# Altium schematic symbol library Vowstar_MCU.SchLib: 30 symbols
Pins are listed as number, name and electrical type; pins without a type are passive.

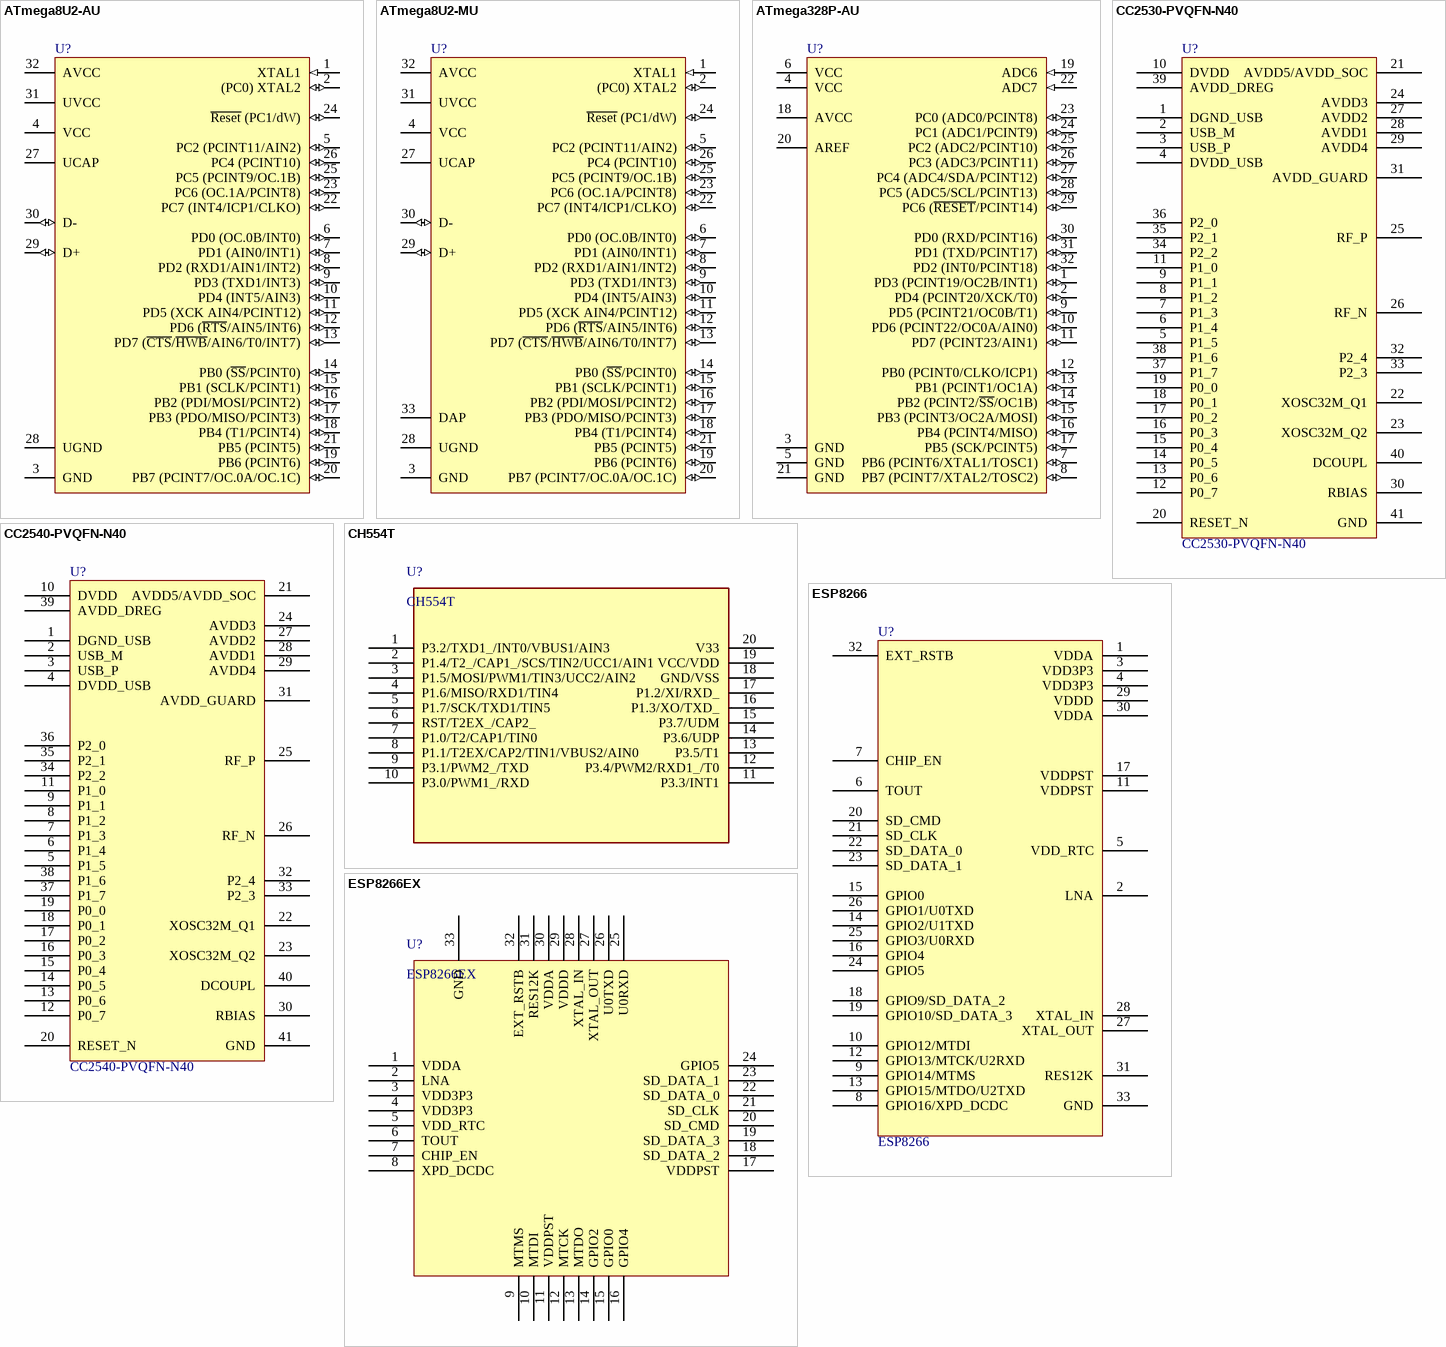
[diagram p0: symbols ATmega8U2-AU to ESP8266EX]

## ATmega8U2-AU
designator U?
8-bit AVR Microcontroller, 2.7-5.5V, 8KB Flash, 512 Bytes EEPROM, 512 Bytes SRAM, 32-pin TQFP, Industrial Grade (-40 Centigrade to 85 Centigrade); Published: 1-Apr-2010; DatasheetVersion: revC, Dec-2009; PackageVersion: revB, Oct-2001; PackageReference: 32A; Publisher: Altium Limited; PackageDescription: 32-Lead, 7x7x1.0 mm Body, 0.8mm Lead Pitch, Thin Profile Plastic Quad Flat Package (TQFP); Supplier 1: Digi-Key; Supplier Part Number 1: ATMEGA8U2-AU-ND; Supplier 2: Farnell; Supplier Part Number 2: 1748535; Supplier 3: Mouser; Supplier Part Number 3: 556-ATMEGA8U2-AU; Code_JEDEC: MS-026-ABA; ComponentLink1Description: Manufacturer Link; ComponentLink1URL: http://www.atmel.com/products/avr/default.asp?; ComponentLink2Description: ATmega8U2/16U2/32U2 Datasheet; ComponentLink2URL: http://www.atmel.com/dyn/resources/prod_documents/doc7799.pdf; ComponentLink3Description: ATmega8U2/16U2/32U2 Summary; ComponentLink3URL: http://www.atmel.com/dyn/resources/prod_documents/7799S.pdf; ComponentLink4Description: Atmel.com Home; ComponentLink4URL: http://www.atmel.com
footprint LQFP32_L (Thin QFP, 32-Leads, Body 7x7mm, Pitch 0.8mm, IPC High Density)
footprint LQFP32_N (Thin QFP, 32-Leads, Body 7x7mm, Pitch 0.8mm, IPC Medium Density)
footprint LQFP32_M (Thin QFP, 32-Leads, Body 7x7mm, Pitch 0.8mm, IPC Low Density)
pins: 1 XTAL1 (in), 2 (PC0) XTAL2 (io), 3 GND (power), 4 VCC (power), 5 PC2 (PCINT11/AIN2) (io), 6 PD0 (OC.0B/INT0) (io), 7 PD1 (AIN0/INT1) (io), 8 PD2 (RXD1/AIN1/INT2) (io), 9 PD3 (TXD1/INT3) (io), 10 PD4 (INT5/AIN3) (io), 11 PD5 (XCK AIN4/PCINT12) (io), 12 PD6 (~{RTS}/AIN5/INT6) (io), 13 PD7 (~{CTS}/~{HWB}/AIN6/T0/INT7) (io), 14 PB0 (~{SS}/PCINT0) (io), 15 PB1 (SCLK/PCINT1) (io), 16 PB2 (PDI/MOSI/PCINT2) (io), 17 PB3 (PDO/MISO/PCINT3) (io), 18 PB4 (T1/PCINT4) (io), 19 PB6 (PCINT6) (io), 20 PB7 (PCINT7/OC.0A/OC.1C) (io), 21 PB5 (PCINT5) (io), 22 PC7 (INT4/ICP1/CLKO) (io), 23 PC6 (OC.1A/PCINT8) (io), 24 ~{Reset} (PC1/dW) (io), 25 PC5 (PCINT9/OC.1B) (io), 26 PC4 (PCINT10) (io), 27 UCAP (power), 28 UGND (power), 29 D+ (io), 30 D- (io), 31 UVCC (power), 32 AVCC (power)

## ATmega8U2-MU
designator U?
8-bit AVR Microcontroller, 2.7-5.5V, 8KB Flash, 512 Bytes EEPROM, 512 Bytes SRAM, 32-pin VQFN, Industrial Grade (-40 Centigrade to 85 Centigrade); Published: 1-Apr-2010; DatasheetVersion: revC, Dec-2009; PackageVersion: revA, Oct-2008; PackageReference: 32PG; Publisher: Altium Limited; PackageDescription: 32-Pin Quad Flat No-Lead (QFN) Sawn,  5 x 5 x 1.0 mm Body, Pitch 0.50 mm, 3.60mm Exposed Pad; Supplier 1: Digi-Key; Supplier Part Number 1: ATMEGA8U2-MU-ND; Supplier 2: Farnell; Supplier Part Number 2: 1748536; Supplier 3: Mouser; Supplier Part Number 3: 556-ATMEGA8U2-MU; Code_JEDEC: MO-220WHHD-2; ComponentLink1Description: Manufacturer Link; ComponentLink1URL: http://www.atmel.com/products/avr/default.asp?; ComponentLink2Description: ATmega8U2/16U2/32U2 Datasheet; ComponentLink2URL: http://www.atmel.com/dyn/resources/prod_documents/doc7799.pdf; ComponentLink3Description: ATmega8U2/16U2/32U2 Summary; ComponentLink3URL: http://www.atmel.com/dyn/resources/prod_documents/7799S.pdf; ComponentLink4Description: Atmel.com Home; ComponentLink4URL: http://www.atmel.com
footprint PVQFN32_L (QFN, 32-Leads, Body 5x5mm, Pitch 0.5mm, IPC High Density)
footprint PVQFN32_M (QFN, 32-Leads, Body 5x5mm, Pitch 0.5mm, IPC Low Density)
footprint PVQFN32_N (QFN, 32-Leads, Body 5x5mm, Pitch 0.5mm, IPC Medium Density)
pins: 1 XTAL1 (in), 2 (PC0) XTAL2 (io), 3 GND (power), 4 VCC (power), 5 PC2 (PCINT11/AIN2) (io), 6 PD0 (OC.0B/INT0) (io), 7 PD1 (AIN0/INT1) (io), 8 PD2 (RXD1/AIN1/INT2) (io), 9 PD3 (TXD1/INT3) (io), 10 PD4 (INT5/AIN3) (io), 11 PD5 (XCK AIN4/PCINT12) (io), 12 PD6 (~{RTS}/AIN5/INT6) (io), 13 PD7 (~{CTS}/~{HWB}/AIN6/T0/INT7) (io), 14 PB0 (~{SS}/PCINT0) (io), 15 PB1 (SCLK/PCINT1) (io), 16 PB2 (PDI/MOSI/PCINT2) (io), 17 PB3 (PDO/MISO/PCINT3) (io), 18 PB4 (T1/PCINT4) (io), 19 PB6 (PCINT6) (io), 20 PB7 (PCINT7/OC.0A/OC.1C) (io), 21 PB5 (PCINT5) (io), 22 PC7 (INT4/ICP1/CLKO) (io), 23 PC6 (OC.1A/PCINT8) (io), 24 ~{Reset} (PC1/dW) (io), 25 PC5 (PCINT9/OC.1B) (io), 26 PC4 (PCINT10) (io), 27 UCAP (power), 28 UGND (power), 29 D+ (io), 30 D- (io), 31 UVCC (power), 32 AVCC (power), 33 DAP (power)

## ATmega328P-AU
designator U?
8-bit AVR Microcontroller, 32KB Flash, 1KB EEPROM, 2KB SRAM, 32-pin TQFP, Industrial Grade (-40 Centigrade to 85 Centigrade); Published: 1-Apr-2010; DatasheetVersion: revA, Jan-2010; PackageVersion: revB, Oct-2001; PackageReference: 32A; Publisher: Altium Limited; PackageDescription: 32-Lead, 7x7x1.0 mm Body, 0.8mm Lead Pitch, Thin Profile Plastic Quad Flat Package (TQFP); Supplier 1: Digi-Key; Supplier Part Number 1: ATMEGA328P-AU-ND; Supplier 2: Farnell; Supplier Part Number 2: 1715486; Supplier 3: Mouser; Supplier Part Number 3: 556-ATMEGA328P-AU; Code_JEDEC: MS-026-ABA; ComponentLink1Description: Manufacturer Link; ComponentLink1URL: http://www.atmel.com/products/avr/default.asp?; ComponentLink2Description: ATmega48A/48PA/88A/88PA/168A/168PA/328/328P Datasheet; ComponentLink2URL: http://www.atmel.com/dyn/resources/prod_documents/8271.pdf; ComponentLink3Description: ATmega48A/48PA/88A/88PA/168A/168PA/328/328P Summary; ComponentLink3URL: http://www.atmel.com/dyn/resources/prod_documents/8271S.pdf; ComponentLink4Description: Atmel.com Home; ComponentLink4URL: http://www.atmel.com
footprint LQFP32_L (Thin QFP, 32-Leads, Body 7x7mm, Pitch 0.8mm, IPC High Density)
footprint LQFP32_M (Thin QFP, 32-Leads, Body 7x7mm, Pitch 0.8mm, IPC Low Density)
footprint LQFP32_N (Thin QFP, 32-Leads, Body 7x7mm, Pitch 0.8mm, IPC Medium Density)
pins: 1 PD3 (PCINT19/OC2B/INT1) (io), 2 PD4 (PCINT20/XCK/T0) (io), 3 GND (power), 4 VCC (power), 5 GND (power), 6 VCC (power), 7 PB6 (PCINT6/XTAL1/TOSC1) (io), 8 PB7 (PCINT7/XTAL2/TOSC2) (io), 9 PD5 (PCINT21/OC0B/T1) (io), 10 PD6 (PCINT22/OC0A/AIN0) (io), 11 PD7 (PCINT23/AIN1) (io), 12 PB0 (PCINT0/CLKO/ICP1) (io), 13 PB1 (PCINT1/OC1A) (io), 14 PB2 (PCINT2/~{SS}/OC1B) (io), 15 PB3 (PCINT3/OC2A/MOSI) (io), 16 PB4 (PCINT4/MISO) (io), 17 PB5 (SCK/PCINT5) (io), 18 AVCC (power), 19 ADC6 (in), 20 AREF, 21 GND (power), 22 ADC7 (in), 23 PC0 (ADC0/PCINT8) (io), 24 PC1 (ADC1/PCINT9) (io), 25 PC2 (ADC2/PCINT10) (io), 26 PC3 (ADC3/PCINT11) (io), 27 PC4 (ADC4/SDA/PCINT12) (io), 28 PC5 (ADC5/SCL/PCINT13) (io), 29 PC6 (~{RESET}/PCINT14) (io), 30 PD0 (RXD/PCINT16) (io), 31 PD1 (TXD/PCINT17) (io), 32 PD2 (INT0/PCINT18) (io)

## CC2530-PVQFN-N40
designator U?
footprint CC2530-PVQFN-N40 (CC2530)
pins: 1 DGND_USB, 2 USB_M, 3 USB_P, 4 DVDD_USB, 5 P1_5, 6 P1_4, 7 P1_3, 8 P1_2, 9 P1_1, 10 DVDD, 11 P1_0, 12 P0_7, 13 P0_6, 14 P0_5, 15 P0_4, 16 P0_3, 17 P0_2, 18 P0_1, 19 P0_0, 20 RESET_N, 21 AVDD5/AVDD_SOC, 22 XOSC32M_Q1, 23 XOSC32M_Q2, 24 AVDD3, 25 RF_P, 26 RF_N, 27 AVDD2, 28 AVDD1, 29 AVDD4, 30 RBIAS, 31 AVDD_GUARD, 32 P2_4, 33 P2_3, 34 P2_2, 35 P2_1, 36 P2_0, 37 P1_7, 38 P1_6, 39 AVDD_DREG, 40 DCOUPL, 41 GND

## CC2540-PVQFN-N40
designator U?
footprint CC2540-PVQFN-N40 (CC2540)
pins: 1 DGND_USB, 2 USB_M, 3 USB_P, 4 DVDD_USB, 5 P1_5, 6 P1_4, 7 P1_3, 8 P1_2, 9 P1_1, 10 DVDD, 11 P1_0, 12 P0_7, 13 P0_6, 14 P0_5, 15 P0_4, 16 P0_3, 17 P0_2, 18 P0_1, 19 P0_0, 20 RESET_N, 21 AVDD5/AVDD_SOC, 22 XOSC32M_Q1, 23 XOSC32M_Q2, 24 AVDD3, 25 RF_P, 26 RF_N, 27 AVDD2, 28 AVDD1, 29 AVDD4, 30 RBIAS, 31 AVDD_GUARD, 32 P2_4, 33 P2_3, 34 P2_2, 35 P2_1, 36 P2_0, 37 P1_7, 38 P1_6, 39 AVDD_DREG, 40 DCOUPL, 41 GND

## CH554T
designator U?
CH554T USB Microcontroller
footprint TSSOP20 (SSOP; 20 Leads; Body Width 3.9 mm; Pitch 0.64 mm)
pins: 1 P3.2/TXD1_/INT0/VBUS1/AIN3, 2 P1.4/T2_/CAP1_/SCS/TIN2/UCC1/AIN1, 3 P1.5/MOSI/PWM1/TIN3/UCC2/AIN2, 4 P1.6/MISO/RXD1/TIN4, 5 P1.7/SCK/TXD1/TIN5, 6 RST/T2EX_/CAP2_, 7 P1.0/T2/CAP1/TIN0, 8 P1.1/T2EX/CAP2/TIN1/VBUS2/AIN0, 9 P3.1/PWM2_/TXD, 10 P3.0/PWM1_/RXD, 11 P3.3/INT1, 12 P3.4/PWM2/RXD1_/T0, 13 P3.5/T1, 14 P3.6/UDP, 15 P3.7/UDM, 16 P1.3/XO/TXD_, 17 P1.2/XI/RXD_, 18 GND/VSS (power), 19 VCC/VDD (power), 20 V33 (power)

## ESP8266
designator U?
footprint QFN32 (32-Pin Quad Flat No-Lead 0.5 mm Pitch, IPC High Density)
pins: 1 VDDA (power), 2 LNA (hiz), 3 VDD3P3 (power), 4 VDD3P3 (power), 5 VDD_RTC (power), 6 TOUT (hiz), 7 CHIP_EN (hiz), 8 GPIO16/XPD_DCDC (hiz), 9 GPIO14/MTMS, 10 GPIO12/MTDI, 11 VDDPST (power), 12 GPIO13/MTCK/U2RXD, 13 GPIO15/MTDO/U2TXD, 14 GPIO2/U1TXD, 15 GPIO0, 16 GPIO4 (hiz), 17 VDDPST (power), 18 GPIO9/SD_DATA_2, 19 GPIO10/SD_DATA_3, 20 SD_CMD, 21 SD_CLK, 22 SD_DATA_0, 23 SD_DATA_1, 24 GPIO5 (hiz), 25 GPIO3/U0RXD, 26 GPIO1/U0TXD, 27 XTAL_OUT, 28 XTAL_IN, 29 VDDD (power), 30 VDDA (power), 31 RES12K, 32 EXT_RSTB, 33 GND (power)

## ESP8266EX
designator U?
ESP8266EX IOT SOC
footprint QFN32 (32-Pin Quad Flat No-Lead 0.5 mm Pitch, IPC High Density)
pins: 1 VDDA (power), 2 LNA (hiz), 3 VDD3P3 (power), 4 VDD3P3 (power), 5 VDD_RTC (power), 6 TOUT (hiz), 7 CHIP_EN (hiz), 8 XPD_DCDC (hiz), 9 MTMS, 10 MTDI, 11 VDDPST (power), 12 MTCK, 13 MTDO, 14 GPIO2, 15 GPIO0, 16 GPIO4 (hiz), 17 VDDPST (power), 18 SD_DATA_2, 19 SD_DATA_3, 20 SD_CMD, 21 SD_CLK, 22 SD_DATA_0, 23 SD_DATA_1, 24 GPIO5 (hiz), 25 U0RXD, 26 U0TXD, 27 XTAL_OUT, 28 XTAL_IN, 29 VDDD (power), 30 VDDA (power), 31 RES12K, 32 EXT_RSTB, 33 GND (power)

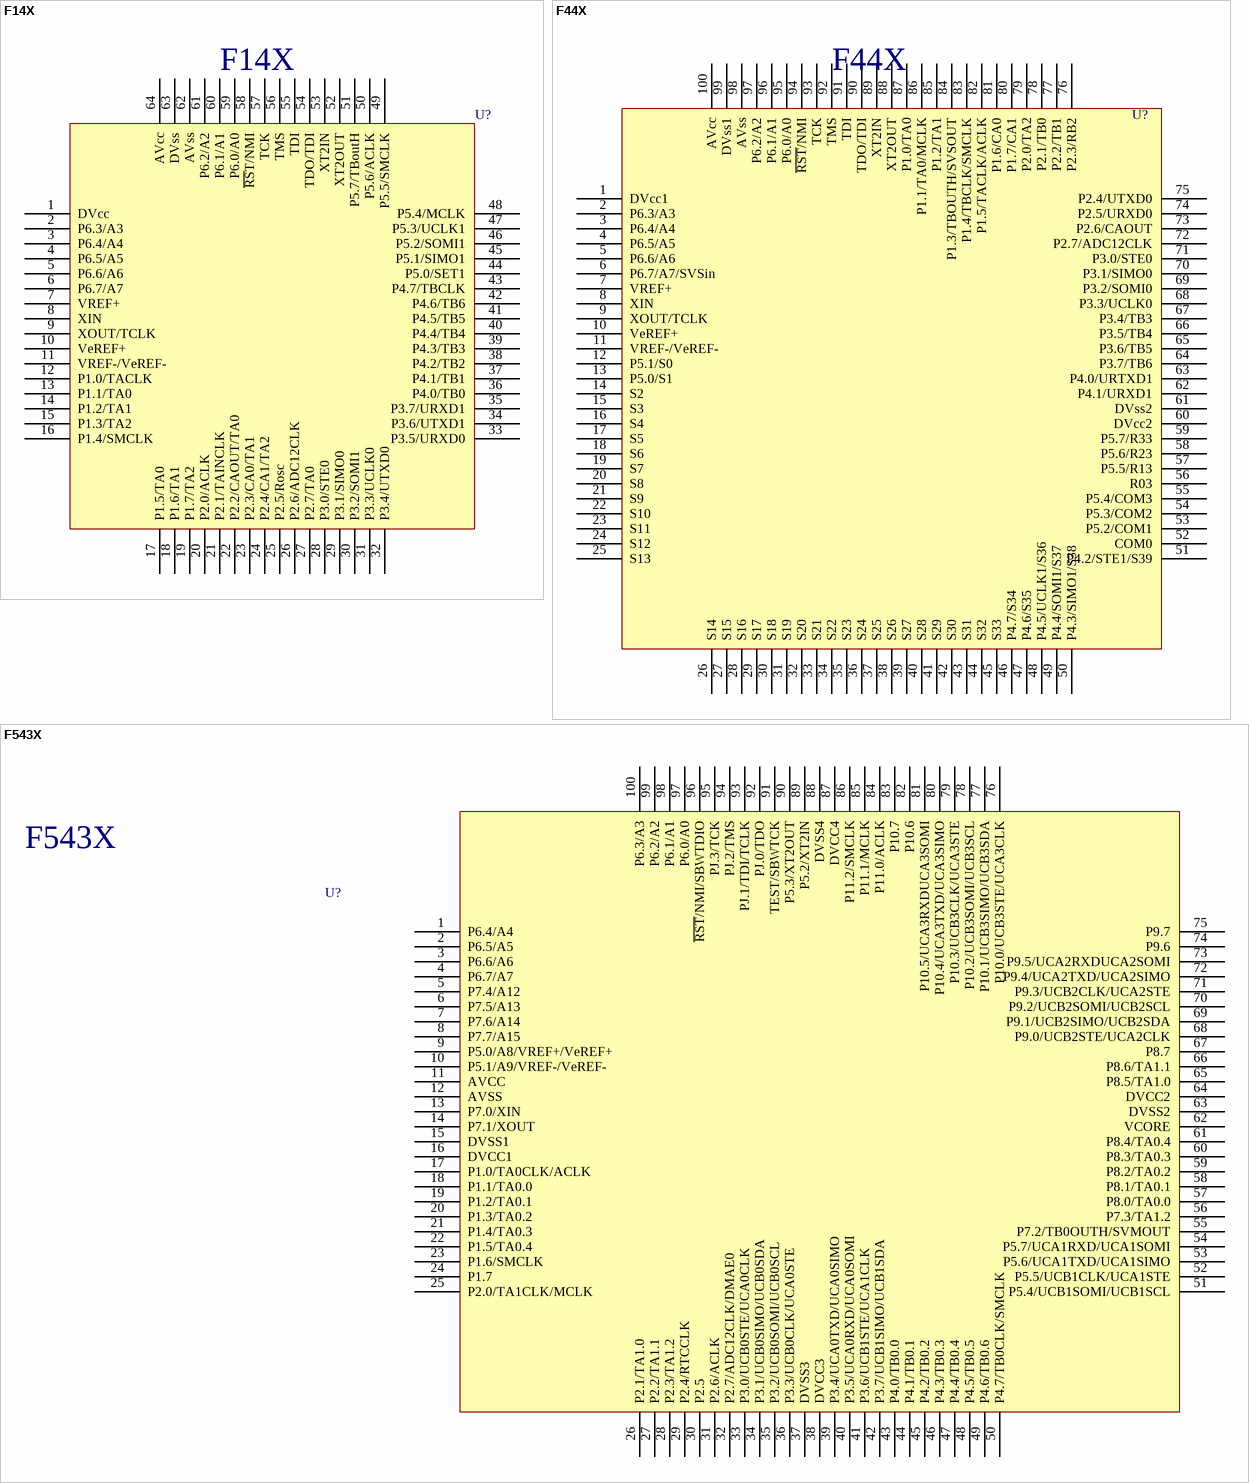
[diagram p1: symbols F14X to F543X]

## F14X
designator U?
footprint F14X
pins: 1 DVcc, 2 P6.3/A3, 3 P6.4/A4, 4 P6.5/A5, 5 P6.6/A6, 6 P6.7/A7, 7 VREF+, 8 XIN, 9 XOUT/TCLK, 10 VeREF+, 11 VREF-/VeREF-, 12 P1.0/TACLK, 13 P1.1/TA0, 14 P1.2/TA1, 15 P1.3/TA2, 16 P1.4/SMCLK, 17 P1.5/TA0, 18 P1.6/TA1, 19 P1.7/TA2, 20 P2.0/ACLK, 21 P2.1/TAINCLK, 22 P2.2/CAOUT/TA0, 23 P2.3/CA0/TA1, 24 P2.4/CA1/TA2, 25 P2.5/Rosc, 26 P2.6/ADC12CLK, 27 P2.7/TA0, 28 P3.0/STE0, 29 P3.1/SIMO0, 30 P3.2/SOMI1, 31 P3.3/UCLK0, 32 P3.4/UTXD0, 33 P3.5/URXD0, 34 P3.6/UTXD1, 35 P3.7/URXD1, 36 P4.0/TB0, 37 P4.1/TB1, 38 P4.2/TB2, 39 P4.3/TB3, 40 P4.4/TB4, 41 P4.5/TB5, 42 P4.6/TB6, 43 P4.7/TBCLK, 44 P5.0/SET1, 45 P5.1/SIMO1, 46 P5.2/SOMI1, 47 P5.3/UCLK1, 48 P5.4/MCLK, 49 P5.5/SMCLK, 50 P5.6/ACLK, 51 P5.7/TBoutH, 52 XT2OUT, 53 XT2IN, 54 TDO/TDI, 55 TDI, 56 TMS, 57 TCK, 58 ~{RS}T/NMI, 59 P6.0/A0, 60 P6.1/A1, 61 P6.2/A2, 62 AVss, 63 DVss, 64 AVcc

## F44X
designator U?
footprint F44X (msp430f449)
pins: 1 DVcc1, 2 P6.3/A3, 3 P6.4/A4, 4 P6.5/A5, 5 P6.6/A6, 6 P6.7/A7/SVSin, 7 VREF+, 8 XIN, 9 XOUT/TCLK, 10 VeREF+, 11 VREF-/VeREF-, 12 P5.1/S0, 13 P5.0/S1, 14 S2, 15 S3, 16 S4, 17 S5, 18 S6, 19 S7, 20 S8, 21 S9, 22 S10, 23 S11, 24 S12, 25 S13, 26 S14, 27 S15, 28 S16, 29 S17, 30 S18, 31 S19, 32 S20, 33 S21, 34 S22, 35 S23, 36 S24, 37 S25, 38 S26, 39 S27, 40 S28, 41 S29, 42 S30, 43 S31, 44 S32, 45 S33, 46 P4.7/S34, 47 P4.6/S35, 48 P4.5/UCLK1/S36, 49 P4.4/SOMI1/S37, 50 P4.3/SIMO1/S38, 51 P4.2/STE1/S39, 52 COM0, 53 P5.2/COM1, 54 P5.3/COM2, 55 P5.4/COM3, 56 R03, 57 P5.5/R13, 58 P5.6/R23, 59 P5.7/R33, 60 DVcc2, 61 DVss2, 62 P4.1/URXD1, 63 P4.0/URTXD1, 64 P3.7/TB6, 65 P3.6/TB5, 66 P3.5/TB4, 67 P3.4/TB3, 68 P3.3/UCLK0, 69 P3.2/SOMI0, 70 P3.1/SIMO0, 71 P3.0/STE0, 72 P2.7/ADC12CLK, 73 P2.6/CAOUT, 74 P2.5/URXD0, 75 P2.4/UTXD0, 76 P2.3/RB2, 77 P2.2/TB1, 78 P2.1/TB0, 79 P2.0/TA2, 80 P1.7/CA1, 81 P1.6/CA0, 82 P1.5/TACLK/ACLK, 83 P1.4/TBCLK/SMCLK, 84 P1.3/TBOUTH/SVSOUT, 85 P1.2/TA1, 86 P1.1/TA0/MCLK, 87 P1.0/TA0, 88 XT2OUT, 89 XT2IN, 90 TDO/TDI, 91 TDI, 92 TMS, 93 TCK, 94 ~{RST}/NMI, 95 P6.0/A0, 96 P6.1/A1, 97 P6.2/A2, 98 AVss, 99 DVss1, 100 AVcc

## F543X
designator U?
footprint F543X (msp430f5438)
pins: 1 P6.4/A4, 2 P6.5/A5, 3 P6.6/A6, 4 P6.7/A7, 5 P7.4/A12, 6 P7.5/A13, 7 P7.6/A14, 8 P7.7/A15, 9 P5.0/A8/VREF+/VeREF+, 10 P5.1/A9/VREF-/VeREF-, 11 AVCC, 12 AVSS, 13 P7.0/XIN, 14 P7.1/XOUT, 15 DVSS1, 16 DVCC1, 17 P1.0/TA0CLK/ACLK, 18 P1.1/TA0.0, 19 P1.2/TA0.1, 20 P1.3/TA0.2, 21 P1.4/TA0.3, 22 P1.5/TA0.4, 23 P1.6/SMCLK, 24 P1.7, 25 P2.0/TA1CLK/MCLK, 26 P2.1/TA1.0, 27 P2.2/TA1.1, 28 P2.3/TA1.2, 29 P2.4/RTCCLK, 30 P2.5, 31 P2.6/ACLK, 32 P2.7/ADC12CLK/DMAE0, 33 P3.0/UCB0STE/UCA0CLK, 34 P3.1/UCB0SIMO/UCB0SDA, 35 P3.2/UCB0SOMI/UCB0SCL, 36 P3.3/UCB0CLK/UCA0STE, 37 DVSS3, 38 DVCC3, 39 P3.4/UCA0TXD/UCA0SIMO, 40 P3.5/UCA0RXD/UCA0SOMI, 41 P3.6/UCB1STE/UCA1CLK, 42 P3.7/UCB1SIMO/UCB1SDA, 43 P4.0/TB0.0, 44 P4.1/TB0.1, 45 P4.2/TB0.2, 46 P4.3/TB0.3, 47 P4.4/TB0.4, 48 P4.5/TB0.5, 49 P4.6/TB0.6, 50 P4.7/TB0CLK/SMCLK, 51 P5.4/UCB1SOMI/UCB1SCL, 52 P5.5/UCB1CLK/UCA1STE, 53 P5.6/UCA1TXD/UCA1SIMO, 54 P5.7/UCA1RXD/UCA1SOMI, 55 P7.2/TB0OUTH/SVMOUT, 56 P7.3/TA1.2, 57 P8.0/TA0.0, 58 P8.1/TA0.1, 59 P8.2/TA0.2, 60 P8.3/TA0.3, 61 P8.4/TA0.4, 62 VCORE, 63 DVSS2, 64 DVCC2, 65 P8.5/TA1.0, 66 P8.6/TA1.1, 67 P8.7, 68 P9.0/UCB2STE/UCA2CLK, 69 P9.1/UCB2SIMO/UCB2SDA, 70 P9.2/UCB2SOMI/UCB2SCL, 71 P9.3/UCB2CLK/UCA2STE, 72 P9.4/UCA2TXD/UCA2SIMO, 73 P9.5/UCA2RXDUCA2SOMI, 74 P9.6, 75 P9.7, 76 P10.0/UCB3STE/UCA3CLK, 77 P10.1/UCB3SIMO/UCB3SDA, 78 P10.2/UCB3SOMI/UCB3SCL, 79 P10.3/UCB3CLK/UCA3STE, 80 P10.4/UCA3TXD/UCA3SIMO, 81 P10.5/UCA3RXDUCA3SOMI, 82 P10.6, 83 P10.7, 84 P11.0/ACLK, 85 P11.1/MCLK, 86 P11.2/SMCLK, 87 DVCC4, 88 DVSS4, 89 P5.2/XT2IN, 90 P5.3/XT2OUT, 91 TEST/SBWTCK, 92 PJ.0/TDO, 93 PJ.1/TDI/TCLK, 94 PJ.2/TMS, 95 PJ.3/TCK, 96 ~{RST}/NMI/SBWTDIO, 97 P6.0/A0, 98 P6.1/A1, 99 P6.2/A2, 100 P6.3/A3

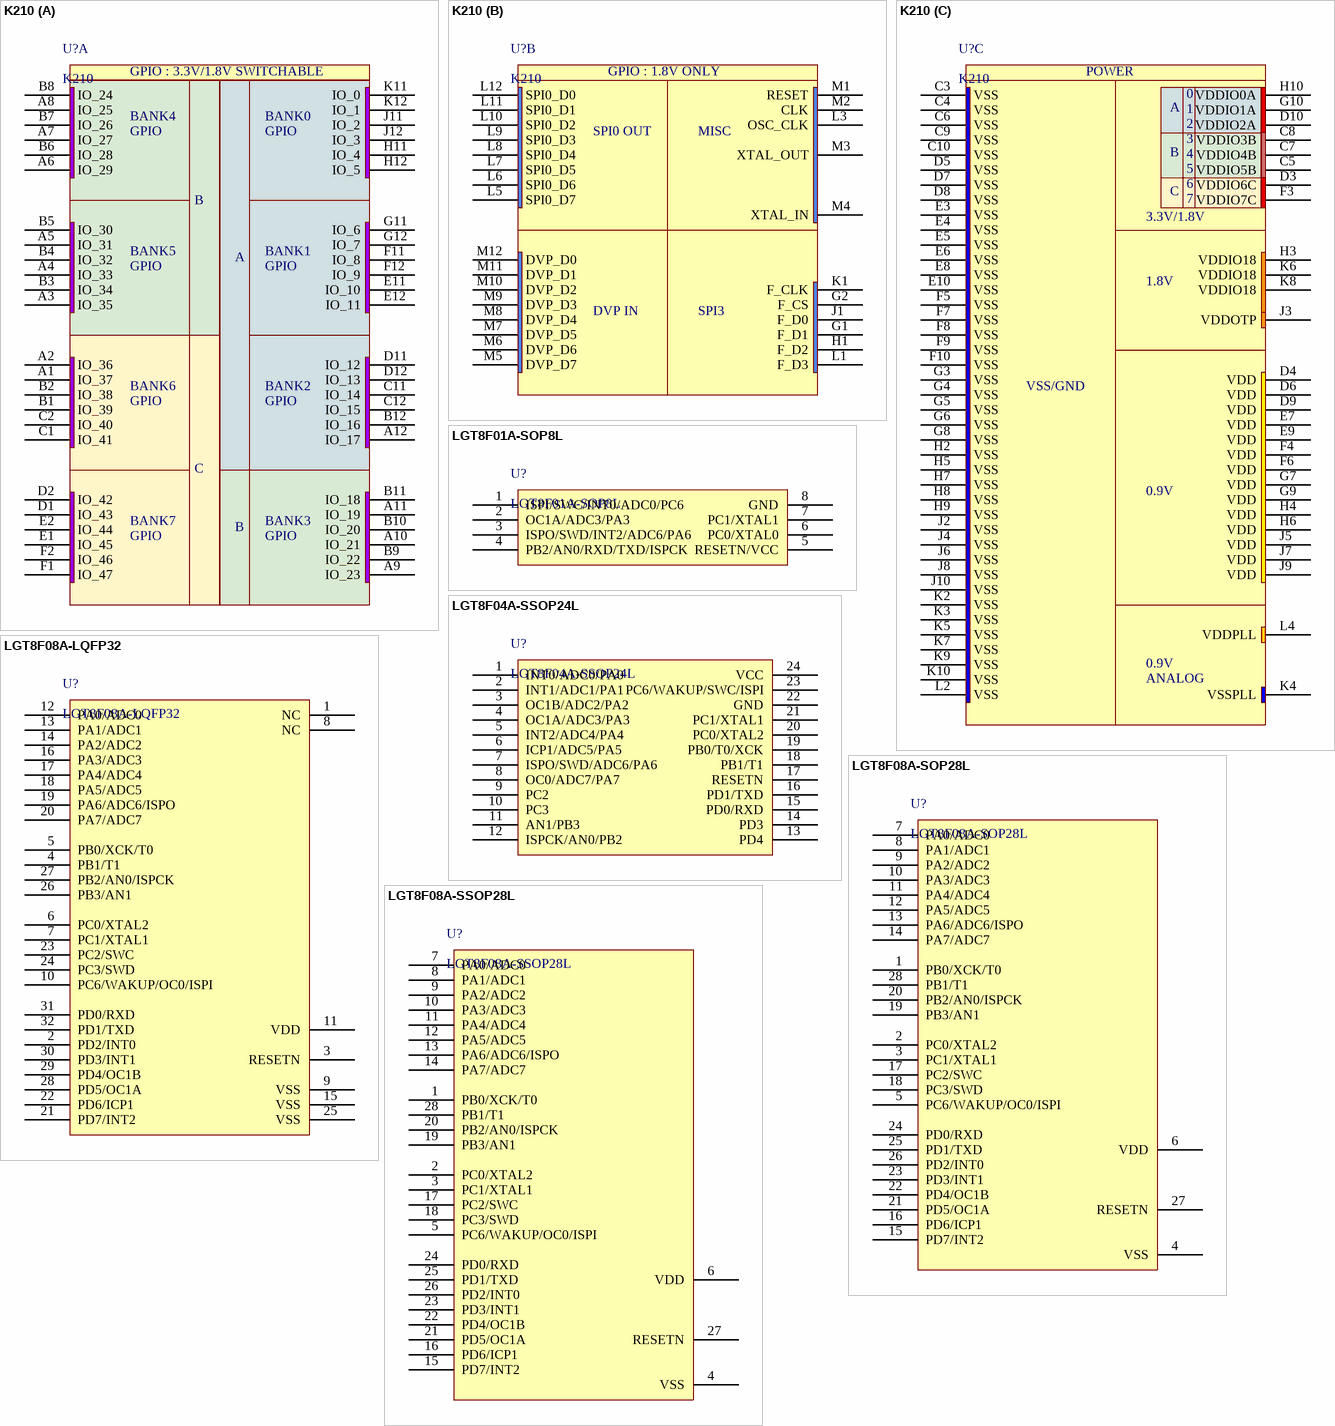
[diagram p2: symbols K210 to LGT8F08A-SSOP28L]

## K210
designator U?
Canaan Kendryte K210 AI SoC; VENDOR: CANAAN INC.
footprint BGA144C65P12X12_800X800X95 (BGA, 144-Leads, Body 8.00x8.00mmx0.95mm, Pitch 0.65mm)
part A pins: A1 IO_37 "Voltage switchable GPIO for FPIOA (3.3V or 1.8V). After reset is :  GPIOHS21.", A2 IO_36 "Voltage switchable GPIO for FPIOA (3.3V or 1.8V). After reset is :  GPIOHS20.", A3 IO_35 "Voltage switchable GPIO for FPIOA (3.3V or 1.8V). After reset is :  GPIOHS19.", A4 IO_33 "Voltage switchable GPIO for FPIOA (3.3V or 1.8V). After reset is :  GPIOHS17.", A5 IO_31 "Voltage switchable GPIO for FPIOA (3.3V or 1.8V). After reset is :  GPIOHS15.", A6 IO_29 "Voltage switchable GPIO for FPIOA (3.3V or 1.8V). After reset is :  GPIOHS13.", A7 IO_27 "Voltage switchable GPIO for FPIOA (3.3V or 1.8V). After reset is :  GPIOHS11.", A8 IO_25 "Voltage switchable GPIO for FPIOA (3.3V or 1.8V). After reset is :  GPIOHS9.", A9 IO_23 "Voltage switchable GPIO for FPIOA (3.3V or 1.8V). After reset is :  GPIOHS7.", A10 IO_21 "Voltage switchable GPIO for FPIOA (3.3V or 1.8V). After reset is :  GPIOHS5.", A11 IO_19 "Voltage switchable GPIO for FPIOA (3.3V or 1.8V). After reset is :  GPIOHS3.", A12 IO_17 "Voltage switchable GPIO for FPIOA (3.3V or 1.8V). After reset is :  GPIOHS1.", B1 IO_39 "Voltage switchable GPIO for FPIOA (3.3V or 1.8V). After reset is :  GPIOHS23.", B2 IO_38 "Voltage switchable GPIO for FPIOA (3.3V or 1.8V). After reset is :  GPIOHS22.", B3 IO_34 "Voltage switchable GPIO for FPIOA (3.3V or 1.8V). After reset is :  GPIOHS18.", B4 IO_32 "Voltage switchable GPIO for FPIOA (3.3V or 1.8V). After reset is :  GPIOHS16.", B5 IO_30 "Voltage switchable GPIO for FPIOA (3.3V or 1.8V). After reset is :  GPIOHS14.", B6 IO_28 "Voltage switchable GPIO for FPIOA (3.3V or 1.8V). After reset is :  GPIOHS12.", B7 IO_26 "Voltage switchable GPIO for FPIOA (3.3V or 1.8V). After reset is :  GPIOHS10.", B8 IO_24 "Voltage switchable GPIO for FPIOA (3.3V or 1.8V). After reset is :  GPIOHS8.", B9 IO_22 "Voltage switchable GPIO for FPIOA (3.3V or 1.8V). After reset is :  GPIOHS6.", B10 IO_20 "Voltage switchable GPIO for FPIOA (3.3V or 1.8V). After reset is :  GPIOHS4.", B11 IO_18 "Voltage switchable GPIO for FPIOA (3.3V or 1.8V). After reset is :  GPIOHS2.", B12 IO_16 "Voltage switchable GPIO for FPIOA (3.3V or 1.8V). After reset is :  GPIOHS0.", C1 IO_41 "Voltage switchable GPIO for FPIOA (3.3V or 1.8V). After reset is :  GPIOHS25.", C2 IO_40 "Voltage switchable GPIO for FPIOA (3.3V or 1.8V). After reset is :  GPIOHS24.", C11 IO_14 "Voltage switchable GPIO for FPIOA (3.3V or 1.8V). After reset is :  GPIO6.", C12 IO_15 "Voltage switchable GPIO for FPIOA (3.3V or 1.8V). After reset is :  GPIO7.", D1 IO_43 "Voltage switchable GPIO for FPIOA (3.3V or 1.8V). After reset is :  GPIOHS27.", D2 IO_42 "Voltage switchable GPIO for FPIOA (3.3V or 1.8V). After reset is :  GPIOHS26.", D11 IO_12 "Voltage switchable GPIO for FPIOA (3.3V or 1.8V). After reset is :  GPIO4.", D12 IO_13 "Voltage switchable GPIO for FPIOA (3.3V or 1.8V). After reset is :  GPIO5.", E1 IO_45 "Voltage switchable GPIO for FPIOA (3.3V or 1.8V). After reset is :  GPIOHS29.", E2 IO_44 "Voltage switchable GPIO for FPIOA (3.3V or 1.8V). After reset is :  GPIOHS28.", E11 IO_10 "Voltage switchable GPIO for FPIOA (3.3V or 1.8V). After reset is :  GPIO2.", E12 IO_11 "Voltage switchable GPIO for FPIOA (3.3V or 1.8V). After reset is :  GPIO3.", F1 IO_47 "Voltage switchable GPIO for FPIOA (3.3V or 1.8V). After reset is :  GPIOHS31.", F2 IO_46 "Voltage switchable GPIO for FPIOA (3.3V or 1.8V). After reset is :  GPIOHS30.", F11 IO_8 "Voltage switchable GPIO for FPIOA (3.3V or 1.8V). After reset is :  GPIO0.", F12 IO_9 "Voltage switchable GPIO for FPIOA (3.3V or 1.8V). After reset is :  GPIO1.", G11 IO_6 "Voltage switchable GPIO for FPIOA (3.3V or 1.8V). After reset is :  (FLOAT*).", G12 IO_7 "Voltage switchable GPIO for FPIOA (3.3V or 1.8V). After reset is :  (FLOAT*).", H11 IO_4 "Voltage switchable GPIO for FPIOA (3.3V or 1.8V). After reset is :  UARTHS_RX.", H12 IO_5 "Voltage switchable GPIO for FPIOA (3.3V or 1.8V). After reset is :  UARTHS_TX.", J11 IO_2 "Voltage switchable GPIO for FPIOA (3.3V or 1.8V). After reset is :  JTAG_TMS.", J12 IO_3 "Voltage switchable GPIO for FPIOA (3.3V or 1.8V). After reset is :  JTAG_TDO.", K11 IO_0 "Voltage switchable GPIO for FPIOA (3.3V or 1.8V). After reset is :  JTAG_TCLK.", K12 IO_1 "Voltage switchable GPIO for FPIOA (3.3V or 1.8V). After reset is :  JTAG_TDI."
part B pins: G1 F_D1 "Fixed 1.8V GPIO for SPI. After reset is :  F_D1.", G2 F_CS "Fixed 1.8V GPIO for SPI. After reset is :  F_CS.", H1 F_D2 "Fixed 1.8V GPIO for SPI. After reset is :  F_D2.", J1 F_D0 "Fixed 1.8V GPIO for SPI. After reset is :  F_D0.", K1 F_CLK "Fixed 1.8V GPIO for SPI. After reset is :  F_CLK.", L1 F_D3 "Fixed 1.8V GPIO for SPI. After reset is :  F_D3.", L3 OSC_CLK "Clock output for oscillator, based on external crystal. After reset is :  OSC_CLK.", L5 SPI0_D7 "Output only GPIO for SPI0 D7. After reset is :  (FLOAT*).", L6 SPI0_D6 "Output only GPIO for SPI0 D6. After reset is :  (FLOAT*).", L7 SPI0_D5 "Output only GPIO for SPI0 D5. After reset is :  (FLOAT*).", L8 SPI0_D4 "Output only GPIO for SPI0 D4. After reset is :  (FLOAT*).", L9 SPI0_D3 "Output only GPIO for SPI0 D3. After reset is :  (FLOAT*).", L10 SPI0_D2 "Output only GPIO for SPI0 D2. After reset is :  (FLOAT*).", L11 SPI0_D1 "Output only GPIO for SPI0 D1. After reset is :  (FLOAT*).", L12 SPI0_D0 "Output only GPIO for SPI0 D0. After reset is :  (FLOAT*).", M1 RESET "System Reset (LOW reset). After reset is :  RESET.", M2 CLK "System clock input. After reset is :  CLK.", M3 XTAL_OUT "External crystal output, non fail-safe, can't connect active signal during power failure. After reset is :  XTAL_OUT.", M4 XTAL_IN "External crystal input, non fail-safe, can't connect active signal during power failure. After reset is :  XTAL_IN.", M5 DVP_D7 "Input only GPIO for DVP D7. After reset is :  (FLOAT*).", M6 DVP_D6 "Input only GPIO for DVP D6. After reset is :  (FLOAT*).", M7 DVP_D5 "Input only GPIO for DVP D5. After reset is :  (FLOAT*).", M8 DVP_D4 "Input only GPIO for DVP D4. After reset is :  (FLOAT*).", M9 DVP_D3 "Input only GPIO for DVP D3. After reset is :  (FLOAT*).", M10 DVP_D2 "Input only GPIO for DVP D2. After reset is :  (FLOAT*).", M11 DVP_D1 "Input only GPIO for DVP D1. After reset is :  (FLOAT*).", M12 DVP_D0 "Input only GPIO for DVP D0. After reset is :  (FLOAT*)."
part C pins: C3 VSS (power) "Ground. After reset is :  VSS.", C4 VSS (power) "Ground. After reset is :  VSS.", C5 VDDIO5B (power) "3.3V Power supply for voltage switchable GPIO. After reset is :  VDDIO33.", C6 VSS (power) "Ground. After reset is :  VSS.", C7 VDDIO4B (power) "3.3V Power supply for voltage switchable GPIO. After reset is :  VDDIO33.", C8 VDDIO3B (power) "3.3V Power supply for voltage switchable GPIO. After reset is :  VDDIO33.", C9 VSS (power) "Ground. After reset is :  VSS.", C10 VSS (power) "Ground. After reset is :  VSS.", D3 VDDIO6C (power) "3.3V Power supply for voltage switchable GPIO. After reset is :  VDDIO33.", D4 VDD (power) "0.9V Power supply for digital core. After reset is :  VDD.", D5 VSS (power) "Ground. After reset is :  VSS.", D6 VDD (power) "0.9V Power supply for digital core. After reset is :  VDD.", D7 VSS (power) "Ground. After reset is :  VSS.", D8 VSS (power) "Ground. After reset is :  VSS.", D9 VDD (power) "0.9V Power supply for digital core. After reset is :  VDD.", D10 VDDIO2A (power) "3.3V Power supply for voltage switchable GPIO. After reset is :  VDDIO33.", E3 VSS (power) "Ground. After reset is :  VSS.", E4 VSS (power) "Ground. After reset is :  VSS.", E5 VSS (power) "Ground. After reset is :  VSS.", E6 VSS (power) "Ground. After reset is :  VSS.", E7 VDD (power) "0.9V Power supply for digital core. After reset is :  VDD.", E8 VSS (power) "Ground. After reset is :  VSS.", E9 VDD (power) "0.9V Power supply for digital core. After reset is :  VDD.", E10 VSS (power) "Ground. After reset is :  VSS.", F3 VDDIO7C (power) "3.3V Power supply for voltage switchable GPIO. After reset is :  VDDIO33.", F4 VDD (power) "0.9V Power supply for digital core. After reset is :  VDD.", F5 VSS (power) "Ground. After reset is :  VSS.", F6 VDD (power) "0.9V Power supply for digital core. After reset is :  VDD.", F7 VSS (power) "Ground. After reset is :  VSS.", F8 VSS (power) "Ground. After reset is :  VSS.", F9 VSS (power) "Ground. After reset is :  VSS.", F10 VSS (power) "Ground. After reset is :  VSS.", G3 VSS (power) "Ground. After reset is :  VSS.", G4 VSS (power) "Ground. After reset is :  VSS.", G5 VSS (power) "Ground. After reset is :  VSS.", G6 VSS (power) "Ground. After reset is :  VSS.", G7 VDD (power) "0.9V Power supply for digital core. After reset is :  VDD.", G8 VSS (power) "Ground. After reset is :  VSS.", G9 VDD (power) "0.9V Power supply for digital core. After reset is :  VDD.", G10 VDDIO1A (power) "3.3V Power supply for voltage switchable GPIO. After reset is :  VDDIO33.", H2 VSS (power) "Ground. After reset is :  VSS.", H3 VDDIO18 (power) "1.8V Power supply for GPIO. After reset is :  VDDIO18.", H4 VDD (power) "0.9V Power supply for digital core. After reset is :  VDD.", H5 VSS (power) "Ground. After reset is :  VSS.", H6 VDD (power) "0.9V Power supply for digital core. After reset is :  VDD.", H7 VSS (power) "Ground. After reset is :  VSS.", H8 VSS (power) "Ground. After reset is :  VSS.", H9 VSS (power) "Ground. After reset is :  VSS.", H10 VDDIO0A (power) "3.3V Power supply for voltage switchable GPIO. After reset is :  VDDIO33.", J2 VSS (power) "Ground. After reset is :  VSS.", J3 VDDOTP (power) "1.8V Power supply for OTP. After reset is :  VDDOTP.", J4 VSS (power) "Ground. After reset is :  VSS.", J5 VDD (power) "0.9V Power supply for digital core. After reset is :  VDD.", J6 VSS (power) "Ground. After reset is :  VSS.", J7 VDD (power) "0.9V Power supply for digital core. After reset is :  VDD.", J8 VSS (power) "Ground. After reset is :  VSS.", J9 VDD (power) "0.9V Power supply for digital core. After reset is :  VDD.", J10 VSS (power) "Ground. After reset is :  VSS.", K2 VSS (power) "Ground. After reset is :  VSS.", K3 VSS (power) "Ground. After reset is :  VSS.", K4 VSSPLL (power) "Analog Ground. for PLL. After reset is :  VSSPLL.", K5 VSS (power) "Ground. After reset is :  VSS.", K6 VDDIO18 (power) "1.8V Power supply for GPIO. After reset is :  VDDIO18.", K7 VSS (power) "Ground. After reset is :  VSS.", K8 VDDIO18 (power) "1.8V Power supply for GPIO. After reset is :  VDDIO18.", K9 VSS (power) "Ground. After reset is :  VSS.", K10 VSS (power) "Ground. After reset is :  VSS.", L2 VSS (power) "Ground. After reset is :  VSS.", L4 VDDPLL (power) "0.9V Analog Power supply for PLL. After reset is :  VDDPLL."
part A text: GPIO : 3.3V/1.8V SWITCHABLE; BANK4; BANK0; GPIO; B; BANK5; BANK1; A; BANK6; BANK2; C; BANK7; BANK3
part B text: GPIO : 1.8V ONLY; SPI0 OUT; MISC; DVP IN; SPI3
part C text: POWER; 0; A; 1; 2; 3; B; 4; 5; 6; C; 7; 3.3V/1.8V; 1.8V; VSS/GND; 0.9V; ANALOG

## LGT8F01A-SOP8L
designator U?
footprint LGT8F01A-SOP8L
pins: 1 ISPI/SWC/INT0/ADC0/PC6, 2 OC1A/ADC3/PA3, 3 ISPO/SWD/INT2/ADC6/PA6, 4 PB2/AN0/RXD/TXD/ISPCK, 5 RESETN/VCC, 6 PC0/XTAL0, 7 PC1/XTAL1, 8 GND

## LGT8F04A-SSOP24L
designator U?
footprint LGT8F04A-SSOP24 (SSOP, Plastic; 24 Leads; Body Width 5.3 mm; Pitch 0.65 mm)
pins: 1 INT0/ADC0/PA0, 2 INT1/ADC1/PA1, 3 OC1B/ADC2/PA2, 4 OC1A/ADC3/PA3, 5 INT2/ADC4/PA4, 6 ICP1/ADC5/PA5, 7 ISPO/SWD/ADC6/PA6, 8 OC0/ADC7/PA7, 9 PC2, 10 PC3, 11 AN1/PB3, 12 ISPCK/AN0/PB2, 13 PD4, 14 PD3, 15 PD0/RXD, 16 PD1/TXD, 17 RESETN, 18 PB1/T1, 19 PB0/T0/XCK, 20 PC0/XTAL2, 21 PC1/XTAL1, 22 GND, 23 PC6/WAKUP/SWC/ISPI, 24 VCC

## LGT8F08A-LQFP32
designator U?
Publisher: www.ourdev.cn; PackageReference: LQFP32; PackageDescription: 28-Lead Plastic Small Outline (SO) - Wide 7.50mm Body [SOIC]; ComponentLink1Description: Datasheet; ComponentLink1URL: http://www.mcugreen.com/LGT8F0XA/docs/LGT8F0XA%20Series%20Programming%20Manual%20v1.2.pdf; ComponentLink2Description: Packaging Specification; ComponentLink3Description: LogicGreen Home; ComponentLink3URL: http://www.mcugreen.com/; DatasheetVersion: v1.2; LatestRevisionDate: 2012/04/18; Supplier 1: www.mailshop.cn; Supplier Part Number 1: LGT8F08A-SOP28L; Supplier Part Number 3: 10647
footprint LGT8F08A-LQFP32 (32-Pin Thin Quad Flat Pack 0.8 mm Pitch, IPC Medium Density)
pins: 1 NC, 2 PD2/INT0, 3 RESETN, 4 PB1/T1, 5 PB0/XCK/T0, 6 PC0/XTAL2, 7 PC1/XTAL1, 8 NC, 9 VSS, 10 PC6/WAKUP/OC0/ISPI, 11 VDD, 12 PA0/ADC0, 13 PA1/ADC1, 14 PA2/ADC2, 15 VSS, 16 PA3/ADC3, 17 PA4/ADC4, 18 PA5/ADC5, 19 PA6/ADC6/ISPO, 20 PA7/ADC7, 21 PD7/INT2, 22 PD6/ICP1, 23 PC2/SWC, 24 PC3/SWD, 25 VSS, 26 PB3/AN1, 27 PB2/AN0/ISPCK, 28 PD5/OC1A, 29 PD4/OC1B, 30 PD3/INT1, 31 PD0/RXD, 32 PD1/TXD
1 alternate drawing of the same symbol

## LGT8F08A-SOP28L
designator U?
Publisher: www.ourdev.cn; PackageReference: SOP28L; PackageDescription: 28-Lead Plastic Small Outline (SO) - Wide 7.50mm Body [SOIC]; ComponentLink1Description: Datasheet; ComponentLink1URL: http://www.mcugreen.com/LGT8F0XA/docs/LGT8F0XA%20Series%20Programming%20Manual%20v1.2.pdf; ComponentLink2Description: Packaging Specification; ComponentLink3Description: LogicGreen Home; ComponentLink3URL: http://www.mcugreen.com/; DatasheetVersion: v1.2; LatestRevisionDate: 2012/04/18; Supplier 1: www.mailshop.cn; Supplier Part Number 1: LGT8F08A-SOP28L; Supplier Part Number 3: 10647
footprint LGT8F08A-SOP28L (SOP, 28-Leads, Body 17.6x7.7mm (max), Pitch 1.27mm, IPC Low Density)
pins: 1 PB0/XCK/T0, 2 PC0/XTAL2, 3 PC1/XTAL1, 4 VSS, 5 PC6/WAKUP/OC0/ISPI, 6 VDD, 7 PA0/ADC0, 8 PA1/ADC1, 9 PA2/ADC2, 10 PA3/ADC3, 11 PA4/ADC4, 12 PA5/ADC5, 13 PA6/ADC6/ISPO, 14 PA7/ADC7, 15 PD7/INT2, 16 PD6/ICP1, 17 PC2/SWC, 18 PC3/SWD, 19 PB3/AN1, 20 PB2/AN0/ISPCK, 21 PD5/OC1A, 22 PD4/OC1B, 23 PD3/INT1, 24 PD0/RXD, 25 PD1/TXD, 26 PD2/INT0, 27 RESETN, 28 PB1/T1
1 alternate drawing of the same symbol

## LGT8F08A-SSOP28L
designator U?
Publisher: www.ourdev.cn; PackageReference: SSOP28; PackageDescription: 28-Lead Plastic Small Outline (SO) - Wide 7.50mm Body [SOIC]; ComponentLink1Description: Datasheet; ComponentLink1URL: http://www.mcugreen.com/LGT8F0XA/docs/LGT8F0XA%20Series%20Programming%20Manual%20v1.2.pdf; ComponentLink2Description: Packaging Specification; ComponentLink3Description: LogicGreen Home; ComponentLink3URL: http://www.mcugreen.com/; DatasheetVersion: v1.2; LatestRevisionDate: 2012/04/18; Supplier 1: www.mailshop.cn; Supplier Part Number 1: LGT8F08A-SOP28L; Supplier Part Number 3: 10647
footprint LGT8F08A-SSOP28 (SSOP, Plastic; 28 Leads; Body Width 5.3 mm; Pitch 0.65 mm)
pins: 1 PB0/XCK/T0, 2 PC0/XTAL2, 3 PC1/XTAL1, 4 VSS, 5 PC6/WAKUP/OC0/ISPI, 6 VDD, 7 PA0/ADC0, 8 PA1/ADC1, 9 PA2/ADC2, 10 PA3/ADC3, 11 PA4/ADC4, 12 PA5/ADC5, 13 PA6/ADC6/ISPO, 14 PA7/ADC7, 15 PD7/INT2, 16 PD6/ICP1, 17 PC2/SWC, 18 PC3/SWD, 19 PB3/AN1, 20 PB2/AN0/ISPCK, 21 PD5/OC1A, 22 PD4/OC1B, 23 PD3/INT1, 24 PD0/RXD, 25 PD1/TXD, 26 PD2/INT0, 27 RESETN, 28 PB1/T1
1 alternate drawing of the same symbol

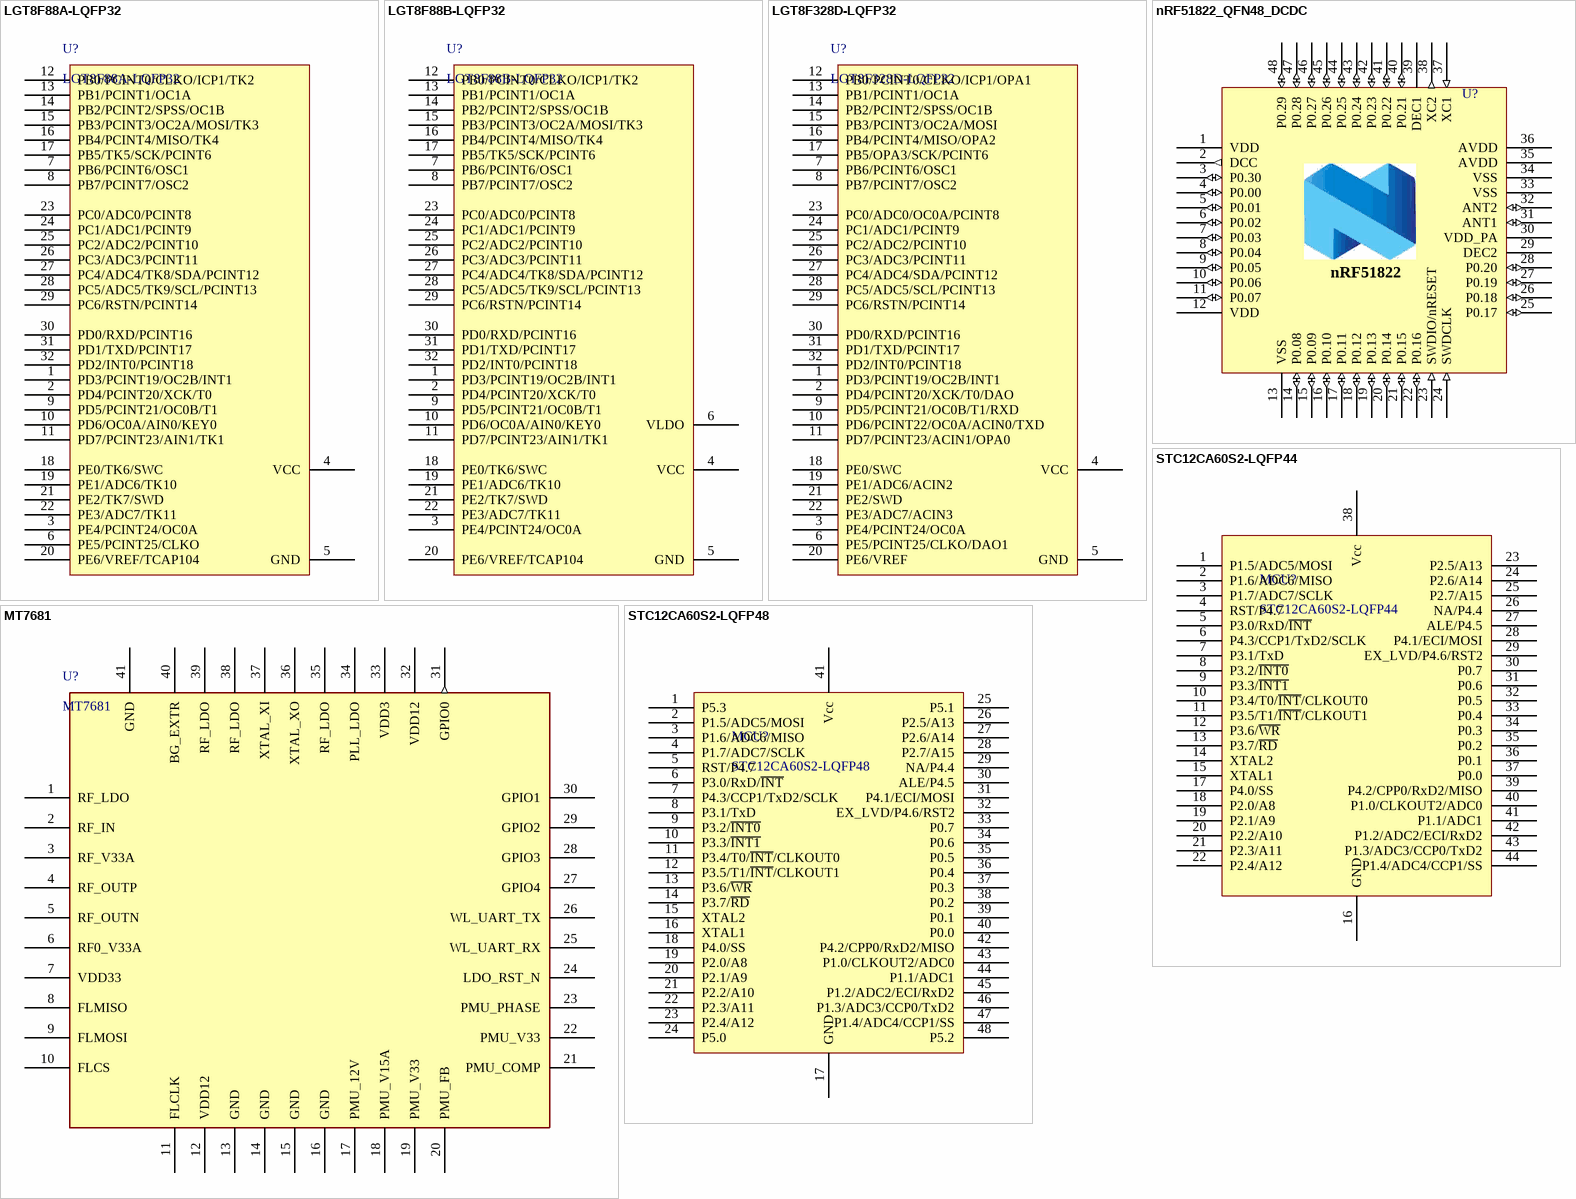
[diagram p3: symbols LGT8F88A-LQFP32 to STC12CA60S2-LQFP48]

## LGT8F88A-LQFP32
designator U?
Publisher: www.ourdev.cn; PackageReference: LQFP32; PackageDescription: 28-Lead Plastic Small Outline (SO) - Wide 7.50mm Body [SOIC]; ComponentLink1Description: Datasheet; ComponentLink1URL: http://www.mcugreen.com/LGT8F0XA/docs/LGT8F0XA%20Series%20Programming%20Manual%20v1.2.pdf; ComponentLink2Description: Packaging Specification; ComponentLink3Description: LogicGreen Home; ComponentLink3URL: http://www.mcugreen.com/; DatasheetVersion: v1.1.1; LatestRevisionDate: 2013/06/27; Supplier 1: www.mailshop.cn; Supplier Part Number 1: LGT8F88A-LQFP32
footprint LGT8F88A-LQFP32 (32-Pin Thin Quad Flat Pack 0.8 mm Pitch, IPC Medium Density)
pins: 1 PD3/PCINT19/OC2B/INT1, 2 PD4/PCINT20/XCK/T0, 3 PE4/PCINT24/OC0A, 4 VCC, 5 GND, 6 PE5/PCINT25/CLKO, 7 PB6/PCINT6/OSC1, 8 PB7/PCINT7/OSC2, 9 PD5/PCINT21/OC0B/T1, 10 PD6/OC0A/AIN0/KEY0, 11 PD7/PCINT23/AIN1/TK1, 12 PB0/PCINT0/CLKO/ICP1/TK2, 13 PB1/PCINT1/OC1A, 14 PB2/PCINT2/SPSS/OC1B, 15 PB3/PCINT3/OC2A/MOSI/TK3, 16 PB4/PCINT4/MISO/TK4, 17 PB5/TK5/SCK/PCINT6, 18 PE0/TK6/SWC, 19 PE1/ADC6/TK10, 20 PE6/VREF/TCAP104, 21 PE2/TK7/SWD, 22 PE3/ADC7/TK11, 23 PC0/ADC0/PCINT8, 24 PC1/ADC1/PCINT9, 25 PC2/ADC2/PCINT10, 26 PC3/ADC3/PCINT11, 27 PC4/ADC4/TK8/SDA/PCINT12, 28 PC5/ADC5/TK9/SCL/PCINT13, 29 PC6/RSTN/PCINT14, 30 PD0/RXD/PCINT16, 31 PD1/TXD/PCINT17, 32 PD2/INT0/PCINT18
1 alternate drawing of the same symbol

## LGT8F88B-LQFP32
designator U?
Publisher: www.ourdev.cn; PackageReference: LQFP32; PackageDescription: 28-Lead Plastic Small Outline (SO) - Wide 7.50mm Body [SOIC]; ComponentLink1Description: Datasheet; ComponentLink1URL: http://www.mcugreen.com/LGT8F0XA/docs/LGT8F0XA%20Series%20Programming%20Manual%20v1.2.pdf; ComponentLink2Description: Packaging Specification; ComponentLink3Description: LogicGreen Home; ComponentLink3URL: http://www.mcugreen.com/; DatasheetVersion: v1.1.1; LatestRevisionDate: 2013/06/27; Supplier 1: www.mailshop.cn; Supplier Part Number 1: LGT8F88B-LQFP32
footprint LGT8F88A-LQFP32 (32-Pin Thin Quad Flat Pack 0.8 mm Pitch, IPC Medium Density)
pins: 1 PD3/PCINT19/OC2B/INT1, 2 PD4/PCINT20/XCK/T0, 3 PE4/PCINT24/OC0A, 4 VCC, 5 GND, 6 VLDO, 7 PB6/PCINT6/OSC1, 8 PB7/PCINT7/OSC2, 9 PD5/PCINT21/OC0B/T1, 10 PD6/OC0A/AIN0/KEY0, 11 PD7/PCINT23/AIN1/TK1, 12 PB0/PCINT0/CLKO/ICP1/TK2, 13 PB1/PCINT1/OC1A, 14 PB2/PCINT2/SPSS/OC1B, 15 PB3/PCINT3/OC2A/MOSI/TK3, 16 PB4/PCINT4/MISO/TK4, 17 PB5/TK5/SCK/PCINT6, 18 PE0/TK6/SWC, 19 PE1/ADC6/TK10, 20 PE6/VREF/TCAP104, 21 PE2/TK7/SWD, 22 PE3/ADC7/TK11, 23 PC0/ADC0/PCINT8, 24 PC1/ADC1/PCINT9, 25 PC2/ADC2/PCINT10, 26 PC3/ADC3/PCINT11, 27 PC4/ADC4/TK8/SDA/PCINT12, 28 PC5/ADC5/TK9/SCL/PCINT13, 29 PC6/RSTN/PCINT14, 30 PD0/RXD/PCINT16, 31 PD1/TXD/PCINT17, 32 PD2/INT0/PCINT18
1 alternate drawing of the same symbol

## LGT8F328D-LQFP32
designator U?
Publisher: www.ourdev.cn; PackageReference: LQFP32; PackageDescription: 28-Lead Plastic Small Outline (SO) - Wide 7.50mm Body [SOIC]; ComponentLink1Description: Datasheet; ComponentLink1URL: http://www.mcugreen.com/LGT8F0XA/docs/LGT8F0XA%20Series%20Programming%20Manual%20v1.2.pdf; ComponentLink2Description: Packaging Specification; ComponentLink3Description: LogicGreen Home; ComponentLink3URL: http://www.mcugreen.com/; DatasheetVersion: v1.1.1; LatestRevisionDate: 2013/06/27; Supplier 1: www.mailshop.cn; Supplier Part Number 1: LGT8F328D-LQFP32
footprint LQFP32_L (Thin QFP, 32-Leads, Body 7x7mm, Pitch 0.8mm, IPC High Density)
footprint LQFP32_M (Thin QFP, 32-Leads, Body 7x7mm, Pitch 0.8mm, IPC Low Density)
footprint LQFP32_N (Thin QFP, 32-Leads, Body 7x7mm, Pitch 0.8mm, IPC Medium Density)
pins: 1 PD3/PCINT19/OC2B/INT1, 2 PD4/PCINT20/XCK/T0/DAO, 3 PE4/PCINT24/OC0A, 4 VCC, 5 GND, 6 PE5/PCINT25/CLKO/DAO1, 7 PB6/PCINT6/OSC1, 8 PB7/PCINT7/OSC2, 9 PD5/PCINT21/OC0B/T1/RXD, 10 PD6/PCINT22/OC0A/ACIN0/TXD, 11 PD7/PCINT23/ACIN1/OPA0, 12 PB0/PCINT0/CLKO/ICP1/OPA1, 13 PB1/PCINT1/OC1A, 14 PB2/PCINT2/SPSS/OC1B, 15 PB3/PCINT3/OC2A/MOSI, 16 PB4/PCINT4/MISO/OPA2, 17 PB5/OPA3/SCK/PCINT6, 18 PE0/SWC, 19 PE1/ADC6/ACIN2, 20 PE6/VREF, 21 PE2/SWD, 22 PE3/ADC7/ACIN3, 23 PC0/ADC0/OC0A/PCINT8, 24 PC1/ADC1/PCINT9, 25 PC2/ADC2/PCINT10, 26 PC3/ADC3/PCINT11, 27 PC4/ADC4/SDA/PCINT12, 28 PC5/ADC5/SCL/PCINT13, 29 PC6/RSTN/PCINT14, 30 PD0/RXD/PCINT16, 31 PD1/TXD/PCINT17, 32 PD2/INT0/PCINT18
1 alternate drawing of the same symbol

## MT7681
designator U?
MTK MT7681 IOT SOC
footprint MQFN40 (MQFN, 40-Leads, Body 5x5mm, Pitch 0.4mm, IPC Medium Density)
pins: 1 RF_LDO, 2 RF_IN, 3 RF_V33A, 4 RF_OUTP, 5 RF_OUTN, 6 RF0_V33A, 7 VDD33, 8 FLMISO, 9 FLMOSI, 10 FLCS, 11 FLCLK, 12 VDD12, 13 GND, 14 GND, 15 GND, 16 GND, 17 PMU_12V, 18 PMU_V15A, 19 PMU_V33, 20 PMU_FB, 21 PMU_COMP, 22 PMU_V33, 23 PMU_PHASE, 24 LDO_RST_N, 25 WL_UART_RX, 26 WL_UART_TX, 27 GPIO4, 28 GPIO3, 29 GPIO2, 30 GPIO1, 31 GPIO0 (out), 32 VDD12, 33 VDD3, 34 PLL_LDO, 35 RF_LDO, 36 XTAL_XO, 37 XTAL_XI, 38 RF_LDO, 39 RF_LDO, 40 BG_EXTR, 41 GND

## nRF51822_QFN48_DCDC
designator U?, comment nRF51822-QFAA  (value not drawn)
Multi-protocol Bluetooth Low Energy and 2.4GHz proprietary system-on-chip; Part Number: nRF51822-Q48-6x6_DCDC; Manufacturer: Nordic Semiconductor; Note: nRF51822 - QFN48 6x6 0.4mm pitch; Artikkelnr Noca: 15079200; Manufacturer Part Number: nRF51822-QFAA; Datasheet: *; Footprint: QFN-48; LatestRevisionDate: 2012-07-10; Pin Count: 48; Publisher: Nordic Semiconductor; Published: 2012-07-08; Value: nRF51822-QFAA; Supplier: Nordic Semiconductor; Supplier part number: *; 2nd source Supplier: *; 2nd source part number: *
footprint QFN40P600X600X90-48N
pins: 1 VDD (power), 2 DCC (out), 3 P0.30 (io), 4 P0.00 (io), 5 P0.01 (io), 6 P0.02 (io), 7 P0.03 (io), 8 P0.04 (io), 9 P0.05 (io), 10 P0.06 (io), 11 P0.07 (io), 12 VDD (power), 13 VSS (power), 14 P0.08 (io), 15 P0.09 (io), 16 P0.10 (io), 17 P0.11 (io), 18 P0.12 (io), 19 P0.13 (io), 20 P0.14 (io), 21 P0.15 (io), 22 P0.16 (io), 23 SWDIO/nRESET (in), 24 SWDCLK (in), 25 P0.17 (io), 26 P0.18 (io), 27 P0.19 (io), 28 P0.20 (io), 29 DEC2 (power), 30 VDD_PA (power), 31 ANT1 (io), 32 ANT2 (io), 33 VSS (power), 34 VSS (power), 35 AVDD (power), 36 AVDD (power), 37 XC1 (in), 38 XC2 (out), 39 DEC1 (power), 40 P0.21 (io), 41 P0.22 (io), 42 P0.23 (io), 43 P0.24 (io), 44 P0.25 (io), 45 P0.26 (io), 46 P0.27 (io), 47 P0.28 (io), 48 P0.29 (io), 49 (power) hidden to GND
text: nRF51822

## STC12CA60S2-LQFP44
designator MCU?
footprint STC12CA60S2-LQFP44
pins: 1 P1.5/ADC5/MOSI, 2 P1.6/ADC6/MISO, 3 P1.7/ADC7/SCLK, 4 RST/P4.7, 5 P3.0/RxD/~{INT}, 6 P4.3/CCP1/TxD2/SCLK, 7 P3.1/TxD, 8 P3.2/~{INT0}, 9 P3.3/~{INT1}, 10 P3.4/T0/~{INT}/CLKOUT0, 11 P3.5/T1/~{INT}/CLKOUT1, 12 P3.6/~{WR}, 13 P3.7/~{RD}, 14 XTAL2, 15 XTAL1, 16 GND, 17 P4.0/SS, 18 P2.0/A8, 19 P2.1/A9, 20 P2.2/A10, 21 P2.3/A11, 22 P2.4/A12, 23 P2.5/A13, 24 P2.6/A14, 25 P2.7/A15, 26 NA/P4.4, 27 ALE/P4.5, 28 P4.1/ECI/MOSI, 29 EX_LVD/P4.6/RST2, 30 P0.7, 31 P0.6, 32 P0.5, 33 P0.4, 34 P0.3, 35 P0.2, 36 P0.1, 37 P0.0, 38 Vcc, 39 P4.2/CPP0/RxD2/MISO, 40 P1.0/CLKOUT2/ADC0, 41 P1.1/ADC1, 42 P1.2/ADC2/ECI/RxD2, 43 P1.3/ADC3/CCP0/TxD2, 44 P1.4/ADC4/CCP1/SS

## STC12CA60S2-LQFP48
designator MCU?
footprint STC12CA60S2-LQFP48 (STC12CA60S2)
pins: 1 P5.3, 2 P1.5/ADC5/MOSI, 3 P1.6/ADC6/MISO, 4 P1.7/ADC7/SCLK, 5 RST/P4.7, 6 P3.0/RxD/~{INT}, 7 P4.3/CCP1/TxD2/SCLK, 8 P3.1/TxD, 9 P3.2/~{INT0}, 10 P3.3/~{INT1}, 11 P3.4/T0/~{INT}/CLKOUT0, 12 P3.5/T1/~{INT}/CLKOUT1, 13 P3.6/~{WR}, 14 P3.7/~{RD}, 15 XTAL2, 16 XTAL1, 17 GND, 18 P4.0/SS, 19 P2.0/A8, 20 P2.1/A9, 21 P2.2/A10, 22 P2.3/A11, 23 P2.4/A12, 24 P5.0, 25 P5.1, 26 P2.5/A13, 27 P2.6/A14, 28 P2.7/A15, 29 NA/P4.4, 30 ALE/P4.5, 31 P4.1/ECI/MOSI, 32 EX_LVD/P4.6/RST2, 33 P0.7, 34 P0.6, 35 P0.5, 36 P0.4, 37 P0.3, 38 P0.2, 39 P0.1, 40 P0.0, 41 Vcc, 42 P4.2/CPP0/RxD2/MISO, 43 P1.0/CLKOUT2/ADC0, 44 P1.1/ADC1, 45 P1.2/ADC2/ECI/RxD2, 46 P1.3/ADC3/CCP0/TxD2, 47 P1.4/ADC4/CCP1/SS, 48 P5.2

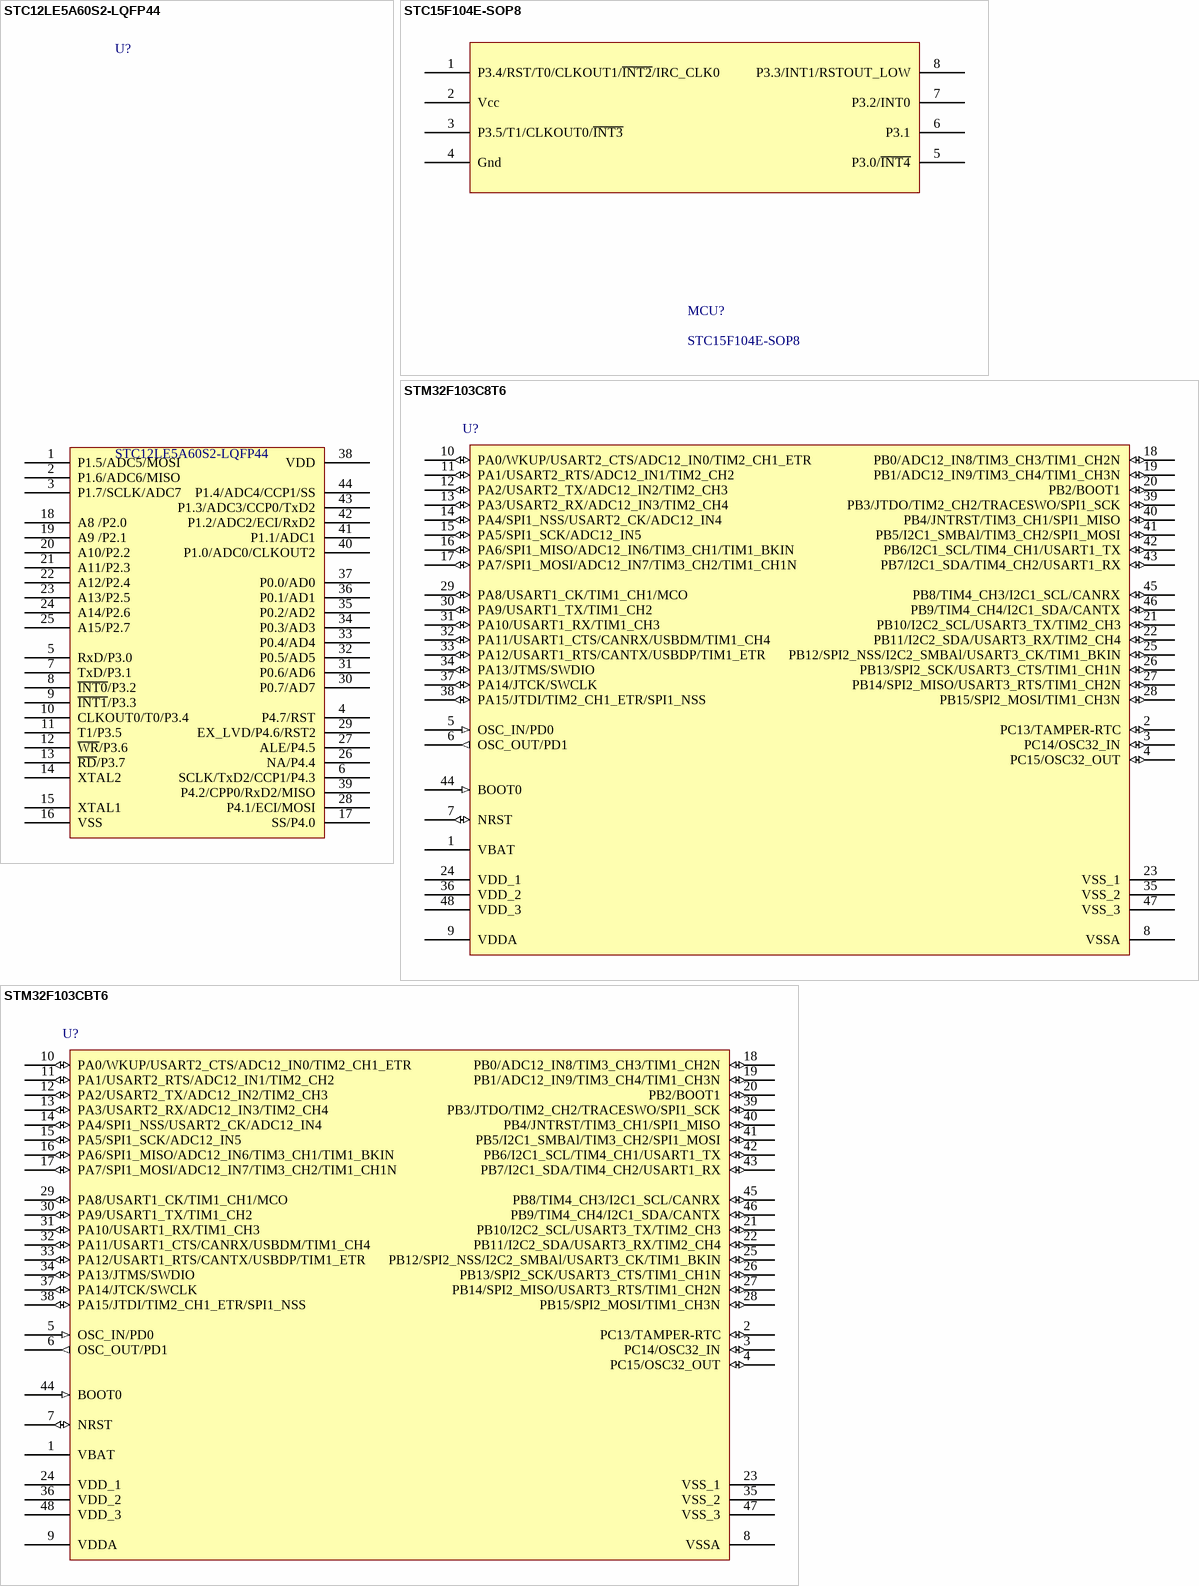
[diagram p4: symbols STC12LE5A60S2-LQFP44 to STM32F103CBT6]

## STC12LE5A60S2-LQFP44
designator U?
footprint LQFP44_L (Thin QFP, 44-Leads, Body 10x10mm, Pitch 0.8mm, IPC High Density)
footprint LQFP44_M (Thin QFP, 44-Leads, Body 10x10mm, Pitch 0.8mm, IPC Low Density)
footprint LQFP44_N (Thin QFP, 44-Leads, Body 10x10mm, Pitch 0.8mm, IPC Medium Density)
pins: 1 P1.5/ADC5/MOSI, 2 P1.6/ADC6/MISO, 3 P1.7/SCLK/ADC7, 4 P4.7/RST, 5 RxD/P3.0, 6 SCLK/TxD2/CCP1/P4.3, 7 TxD/P3.1, 8 ~{INT0}/P3.2, 9 ~{INT1}/P3.3, 10 CLKOUT0/T0/P3.4, 11 T1/P3.5, 12 ~{WR}/P3.6, 13 ~{RD}/P3.7, 14 XTAL2, 15 XTAL1, 16 VSS, 17 SS/P4.0, 18 A8 /P2.0, 19 A9 /P2.1, 20 A10/P2.2, 21 A11/P2.3, 22 A12/P2.4, 23 A13/P2.5, 24 A14/P2.6, 25 A15/P2.7, 26 NA/P4.4, 27 ALE/P4.5, 28 P4.1/ECI/MOSI, 29 EX_LVD/P4.6/RST2, 30 P0.7/AD7, 31 P0.6/AD6, 32 P0.5/AD5, 33 P0.4/AD4, 34 P0.3/AD3, 35 P0.2/AD2, 36 P0.1/AD1, 37 P0.0/AD0, 38 VDD, 39 P4.2/CPP0/RxD2/MISO, 40 P1.0/ADC0/CLKOUT2, 41 P1.1/ADC1, 42 P1.2/ADC2/ECI/RxD2, 43 P1.3/ADC3/CCP0/TxD2, 44 P1.4/ADC4/CCP1/SS

## STC15F104E-SOP8
designator MCU?
footprint STC15F104E-SOP8
pins: 1 P3.4/RST/T0/CLKOUT1/~{INT2}/IRC_CLK0, 2 Vcc, 3 P3.5/T1/CLKOUT0/~{INT3}, 4 Gnd, 5 P3.0/~{INT4}, 6 P3.1, 7 P3.2/INT0, 8 P3.3/INT1/RSTOUT_LOW

## STM32F103C8T6
designator U?
STM32 ARM-based 32-bit MCU with 64 Kbytes Flash, 48-pin LQFP, Industrial Temperature; Published: 30-May-2008; DatasheetVersion: rev6, Mar-2008; PackageVersion: Mar-2008; PackageReference: LQFP48; Publisher: Altium Limited; PackageDescription: 48-Pin Low-Profile Quad Flat Pack, 7 x 7 mm Body, 0.5 mm Pitch (LQFP48); ComponentLink1Description: Manufacturer Link; ComponentLink1URL: www.st.com/stm32; ComponentLink2Description: Datasheet; ComponentLink2URL: http://www.st.com/stonline/products/literature/ds/13587.pdf
footprint LQFP48_N (Thin QFP, 48-Leads, Body 7x7mm, Pitch 0.5mm, IPC Medium Density)
footprint LQFP48_L (Thin QFP, 48-Leads, Body 7x7mm, Pitch 0.5mm, IPC High Density)
footprint LQFP48_M (Thin QFP, 48-Leads, Body 7x7mm, Pitch 0.5mm, IPC Low Density)
pins: 1 VBAT (power), 2 PC13/TAMPER-RTC (io), 3 PC14/OSC32_IN (io), 4 PC15/OSC32_OUT (io), 5 OSC_IN/PD0 (in), 6 OSC_OUT/PD1 (out), 7 NRST (io), 8 VSSA (power), 9 VDDA (power), 10 PA0/WKUP/USART2_CTS/ADC12_IN0/TIM2_CH1_ETR (io), 11 PA1/USART2_RTS/ADC12_IN1/TIM2_CH2 (io), 12 PA2/USART2_TX/ADC12_IN2/TIM2_CH3 (io), 13 PA3/USART2_RX/ADC12_IN3/TIM2_CH4 (io), 14 PA4/SPI1_NSS/USART2_CK/ADC12_IN4 (io), 15 PA5/SPI1_SCK/ADC12_IN5 (io), 16 PA6/SPI1_MISO/ADC12_IN6/TIM3_CH1/TIM1_BKIN (io), 17 PA7/SPI1_MOSI/ADC12_IN7/TIM3_CH2/TIM1_CH1N (io), 18 PB0/ADC12_IN8/TIM3_CH3/TIM1_CH2N (io), 19 PB1/ADC12_IN9/TIM3_CH4/TIM1_CH3N (io), 20 PB2/BOOT1 (io), 21 PB10/I2C2_SCL/USART3_TX/TIM2_CH3 (io), 22 PB11/I2C2_SDA/USART3_RX/TIM2_CH4 (io), 23 VSS_1 (power), 24 VDD_1 (power), 25 PB12/SPI2_NSS/I2C2_SMBAl/USART3_CK/TIM1_BKIN (io), 26 PB13/SPI2_SCK/USART3_CTS/TIM1_CH1N (io), 27 PB14/SPI2_MISO/USART3_RTS/TIM1_CH2N (io), 28 PB15/SPI2_MOSI/TIM1_CH3N (io), 29 PA8/USART1_CK/TIM1_CH1/MCO (io), 30 PA9/USART1_TX/TIM1_CH2 (io), 31 PA10/USART1_RX/TIM1_CH3 (io), 32 PA11/USART1_CTS/CANRX/USBDM/TIM1_CH4 (io), 33 PA12/USART1_RTS/CANTX/USBDP/TIM1_ETR (io), 34 PA13/JTMS/SWDIO (io), 35 VSS_2 (power), 36 VDD_2 (power), 37 PA14/JTCK/SWCLK (io), 38 PA15/JTDI/TIM2_CH1_ETR/SPI1_NSS (io), 39 PB3/JTDO/TIM2_CH2/TRACESWO/SPI1_SCK (io), 40 PB4/JNTRST/TIM3_CH1/SPI1_MISO (io), 41 PB5/I2C1_SMBAl/TIM3_CH2/SPI1_MOSI (io), 42 PB6/I2C1_SCL/TIM4_CH1/USART1_TX (io), 43 PB7/I2C1_SDA/TIM4_CH2/USART1_RX (io), 44 BOOT0 (in), 45 PB8/TIM4_CH3/I2C1_SCL/CANRX (io), 46 PB9/TIM4_CH4/I2C1_SDA/CANTX (io), 47 VSS_3 (power), 48 VDD_3 (power)

## STM32F103CBT6
designator U?
STM32 ARM-based 32-bit MCU with 128 Kbytes Flash, 48-pin LQFP, Industrial Temperature; Published: 30-May-2008; DatasheetVersion: rev6, Mar-2008; PackageVersion: Mar-2008; PackageReference: LQFP48; Publisher: Altium Limited; PackageDescription: 48-Pin Low-Profile Quad Flat Pack, 7 x 7 mm Body, 0.5 mm Pitch (LQFP48); ComponentLink1Description: Manufacturer Link; ComponentLink1URL: www.st.com/stm32; ComponentLink2Description: Datasheet; ComponentLink2URL: http://www.st.com/stonline/products/literature/ds/13587.pdf
footprint LQFP48_N (Thin QFP, 48-Leads, Body 7x7mm, Pitch 0.5mm, IPC Medium Density)
footprint LQFP48_L (Thin QFP, 48-Leads, Body 7x7mm, Pitch 0.5mm, IPC High Density)
footprint LQFP48_M (Thin QFP, 48-Leads, Body 7x7mm, Pitch 0.5mm, IPC Low Density)
pins: 1 VBAT (power), 2 PC13/TAMPER-RTC (io), 3 PC14/OSC32_IN (io), 4 PC15/OSC32_OUT (io), 5 OSC_IN/PD0 (in), 6 OSC_OUT/PD1 (out), 7 NRST (io), 8 VSSA (power), 9 VDDA (power), 10 PA0/WKUP/USART2_CTS/ADC12_IN0/TIM2_CH1_ETR (io), 11 PA1/USART2_RTS/ADC12_IN1/TIM2_CH2 (io), 12 PA2/USART2_TX/ADC12_IN2/TIM2_CH3 (io), 13 PA3/USART2_RX/ADC12_IN3/TIM2_CH4 (io), 14 PA4/SPI1_NSS/USART2_CK/ADC12_IN4 (io), 15 PA5/SPI1_SCK/ADC12_IN5 (io), 16 PA6/SPI1_MISO/ADC12_IN6/TIM3_CH1/TIM1_BKIN (io), 17 PA7/SPI1_MOSI/ADC12_IN7/TIM3_CH2/TIM1_CH1N (io), 18 PB0/ADC12_IN8/TIM3_CH3/TIM1_CH2N (io), 19 PB1/ADC12_IN9/TIM3_CH4/TIM1_CH3N (io), 20 PB2/BOOT1 (io), 21 PB10/I2C2_SCL/USART3_TX/TIM2_CH3 (io), 22 PB11/I2C2_SDA/USART3_RX/TIM2_CH4 (io), 23 VSS_1 (power), 24 VDD_1 (power), 25 PB12/SPI2_NSS/I2C2_SMBAl/USART3_CK/TIM1_BKIN (io), 26 PB13/SPI2_SCK/USART3_CTS/TIM1_CH1N (io), 27 PB14/SPI2_MISO/USART3_RTS/TIM1_CH2N (io), 28 PB15/SPI2_MOSI/TIM1_CH3N (io), 29 PA8/USART1_CK/TIM1_CH1/MCO (io), 30 PA9/USART1_TX/TIM1_CH2 (io), 31 PA10/USART1_RX/TIM1_CH3 (io), 32 PA11/USART1_CTS/CANRX/USBDM/TIM1_CH4 (io), 33 PA12/USART1_RTS/CANTX/USBDP/TIM1_ETR (io), 34 PA13/JTMS/SWDIO (io), 35 VSS_2 (power), 36 VDD_2 (power), 37 PA14/JTCK/SWCLK (io), 38 PA15/JTDI/TIM2_CH1_ETR/SPI1_NSS (io), 39 PB3/JTDO/TIM2_CH2/TRACESWO/SPI1_SCK (io), 40 PB4/JNTRST/TIM3_CH1/SPI1_MISO (io), 41 PB5/I2C1_SMBAl/TIM3_CH2/SPI1_MOSI (io), 42 PB6/I2C1_SCL/TIM4_CH1/USART1_TX (io), 43 PB7/I2C1_SDA/TIM4_CH2/USART1_RX (io), 44 BOOT0 (in), 45 PB8/TIM4_CH3/I2C1_SCL/CANRX (io), 46 PB9/TIM4_CH4/I2C1_SDA/CANTX (io), 47 VSS_3 (power), 48 VDD_3 (power)

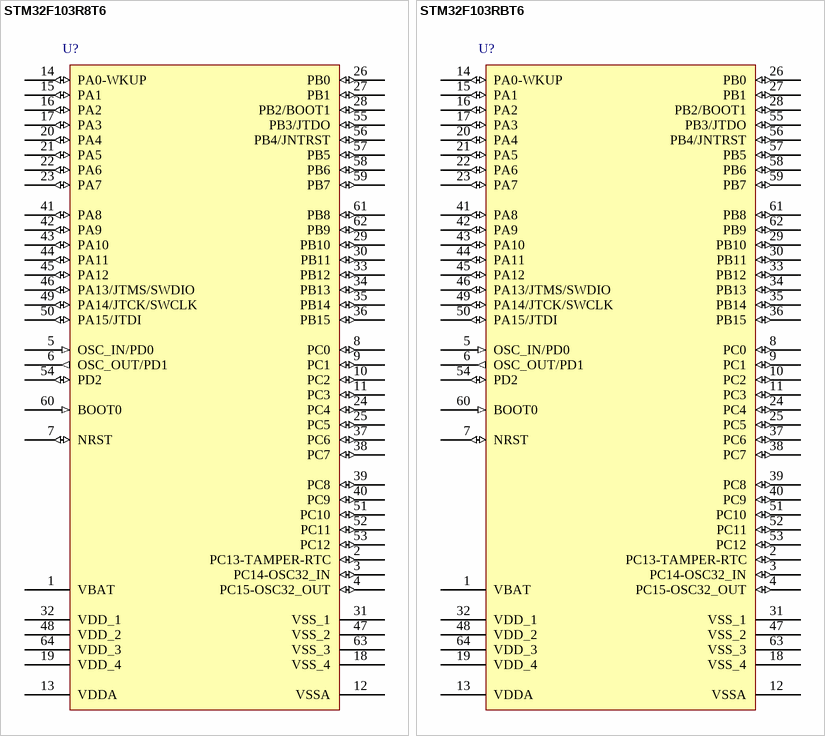
[diagram p5: symbols STM32F103R8T6 to STM32F103RBT6]

## STM32F103R8T6
designator U?
STM32 ARM-based 32-bit MCU with 64 Kbytes Flash, 64-pin LQFP, Industrial Temperature; Published: 30-May-2008; DatasheetVersion: rev6, Mar-2008; PackageVersion: Mar-2008; PackageReference: LQFP64; Publisher: Altium Limited; PackageDescription: 64-Pin Low-Profile Quad Flat Pack, 10 x 10 mm Body, 0.5 mm Pitch (LQFP64); ComponentLink1Description: Manufacturer Link; ComponentLink1URL: www.st.com/stm32; ComponentLink2Description: Datasheet; ComponentLink2URL: http://www.st.com/stonline/products/literature/ds/13587.pdf
footprint LQFP64_N (Thin QFP, 64-Leads, Body 10x10mm, Pitch 0.5mm, IPC Medium Density)
footprint LQFP64_L (Thin QFP, 64-Leads, Body 10x10mm, Pitch 0.5mm, IPC High Density)
footprint LQFP64_M (Thin QFP, 64-Leads, Body 10x10mm, Pitch 0.5mm, IPC Low Density)
pins: 1 VBAT (power), 2 PC13-TAMPER-RTC (io), 3 PC14-OSC32_IN (io), 4 PC15-OSC32_OUT (io), 5 OSC_IN/PD0 (in), 6 OSC_OUT/PD1 (out), 7 NRST (io), 8 PC0 (io), 9 PC1 (io), 10 PC2 (io), 11 PC3 (io), 12 VSSA (power), 13 VDDA (power), 14 PA0-WKUP (io), 15 PA1 (io), 16 PA2 (io), 17 PA3 (io), 18 VSS_4 (power), 19 VDD_4 (power), 20 PA4 (io), 21 PA5 (io), 22 PA6 (io), 23 PA7 (io), 24 PC4 (io), 25 PC5 (io), 26 PB0 (io), 27 PB1 (io), 28 PB2/BOOT1 (io), 29 PB10 (io), 30 PB11 (io), 31 VSS_1 (power), 32 VDD_1 (power), 33 PB12 (io), 34 PB13 (io), 35 PB14 (io), 36 PB15 (io), 37 PC6 (io), 38 PC7 (io), 39 PC8 (io), 40 PC9 (io), 41 PA8 (io), 42 PA9 (io), 43 PA10 (io), 44 PA11 (io), 45 PA12 (io), 46 PA13/JTMS/SWDIO (io), 47 VSS_2 (power), 48 VDD_2 (power), 49 PA14/JTCK/SWCLK (io), 50 PA15/JTDI (io), 51 PC10 (io), 52 PC11 (io), 53 PC12 (io), 54 PD2 (io), 55 PB3/JTDO (io), 56 PB4/JNTRST (io), 57 PB5 (io), 58 PB6 (io), 59 PB7 (io), 60 BOOT0 (in), 61 PB8 (io), 62 PB9 (io), 63 VSS_3 (power), 64 VDD_3 (power)

## STM32F103RBT6
designator U?
STM32 ARM-based 32-bit MCU with 128 Kbytes Flash, 64-pin LQFP, Industrial Temperature; Published: 30-May-2008; DatasheetVersion: rev6, Mar-2008; PackageVersion: Mar-2008; PackageReference: LQFP64; Publisher: Altium Limited; PackageDescription: 64-Pin Low-Profile Quad Flat Pack, 10 x 10 mm Body, 0.5 mm Pitch (LQFP64); ComponentLink1Description: Manufacturer Link; ComponentLink1URL: www.st.com/stm32; ComponentLink2Description: Datasheet; ComponentLink2URL: http://www.st.com/stonline/products/literature/ds/13587.pdf
footprint LQFP64_N (Thin QFP, 64-Leads, Body 10x10mm, Pitch 0.5mm, IPC Medium Density)
footprint LQFP64_L (Thin QFP, 64-Leads, Body 10x10mm, Pitch 0.5mm, IPC High Density)
footprint LQFP64_M (Thin QFP, 64-Leads, Body 10x10mm, Pitch 0.5mm, IPC Low Density)
pins: 1 VBAT (power), 2 PC13-TAMPER-RTC (io), 3 PC14-OSC32_IN (io), 4 PC15-OSC32_OUT (io), 5 OSC_IN/PD0 (in), 6 OSC_OUT/PD1 (out), 7 NRST (io), 8 PC0 (io), 9 PC1 (io), 10 PC2 (io), 11 PC3 (io), 12 VSSA (power), 13 VDDA (power), 14 PA0-WKUP (io), 15 PA1 (io), 16 PA2 (io), 17 PA3 (io), 18 VSS_4 (power), 19 VDD_4 (power), 20 PA4 (io), 21 PA5 (io), 22 PA6 (io), 23 PA7 (io), 24 PC4 (io), 25 PC5 (io), 26 PB0 (io), 27 PB1 (io), 28 PB2/BOOT1 (io), 29 PB10 (io), 30 PB11 (io), 31 VSS_1 (power), 32 VDD_1 (power), 33 PB12 (io), 34 PB13 (io), 35 PB14 (io), 36 PB15 (io), 37 PC6 (io), 38 PC7 (io), 39 PC8 (io), 40 PC9 (io), 41 PA8 (io), 42 PA9 (io), 43 PA10 (io), 44 PA11 (io), 45 PA12 (io), 46 PA13/JTMS/SWDIO (io), 47 VSS_2 (power), 48 VDD_2 (power), 49 PA14/JTCK/SWCLK (io), 50 PA15/JTDI (io), 51 PC10 (io), 52 PC11 (io), 53 PC12 (io), 54 PD2 (io), 55 PB3/JTDO (io), 56 PB4/JNTRST (io), 57 PB5 (io), 58 PB6 (io), 59 PB7 (io), 60 BOOT0 (in), 61 PB8 (io), 62 PB9 (io), 63 VSS_3 (power), 64 VDD_3 (power)